# Altium schematic symbol library Library_Diana.SchLib: 299 symbols (part 1 of 3)
Pins are listed as number, name and electrical type; pins without a type are passive.

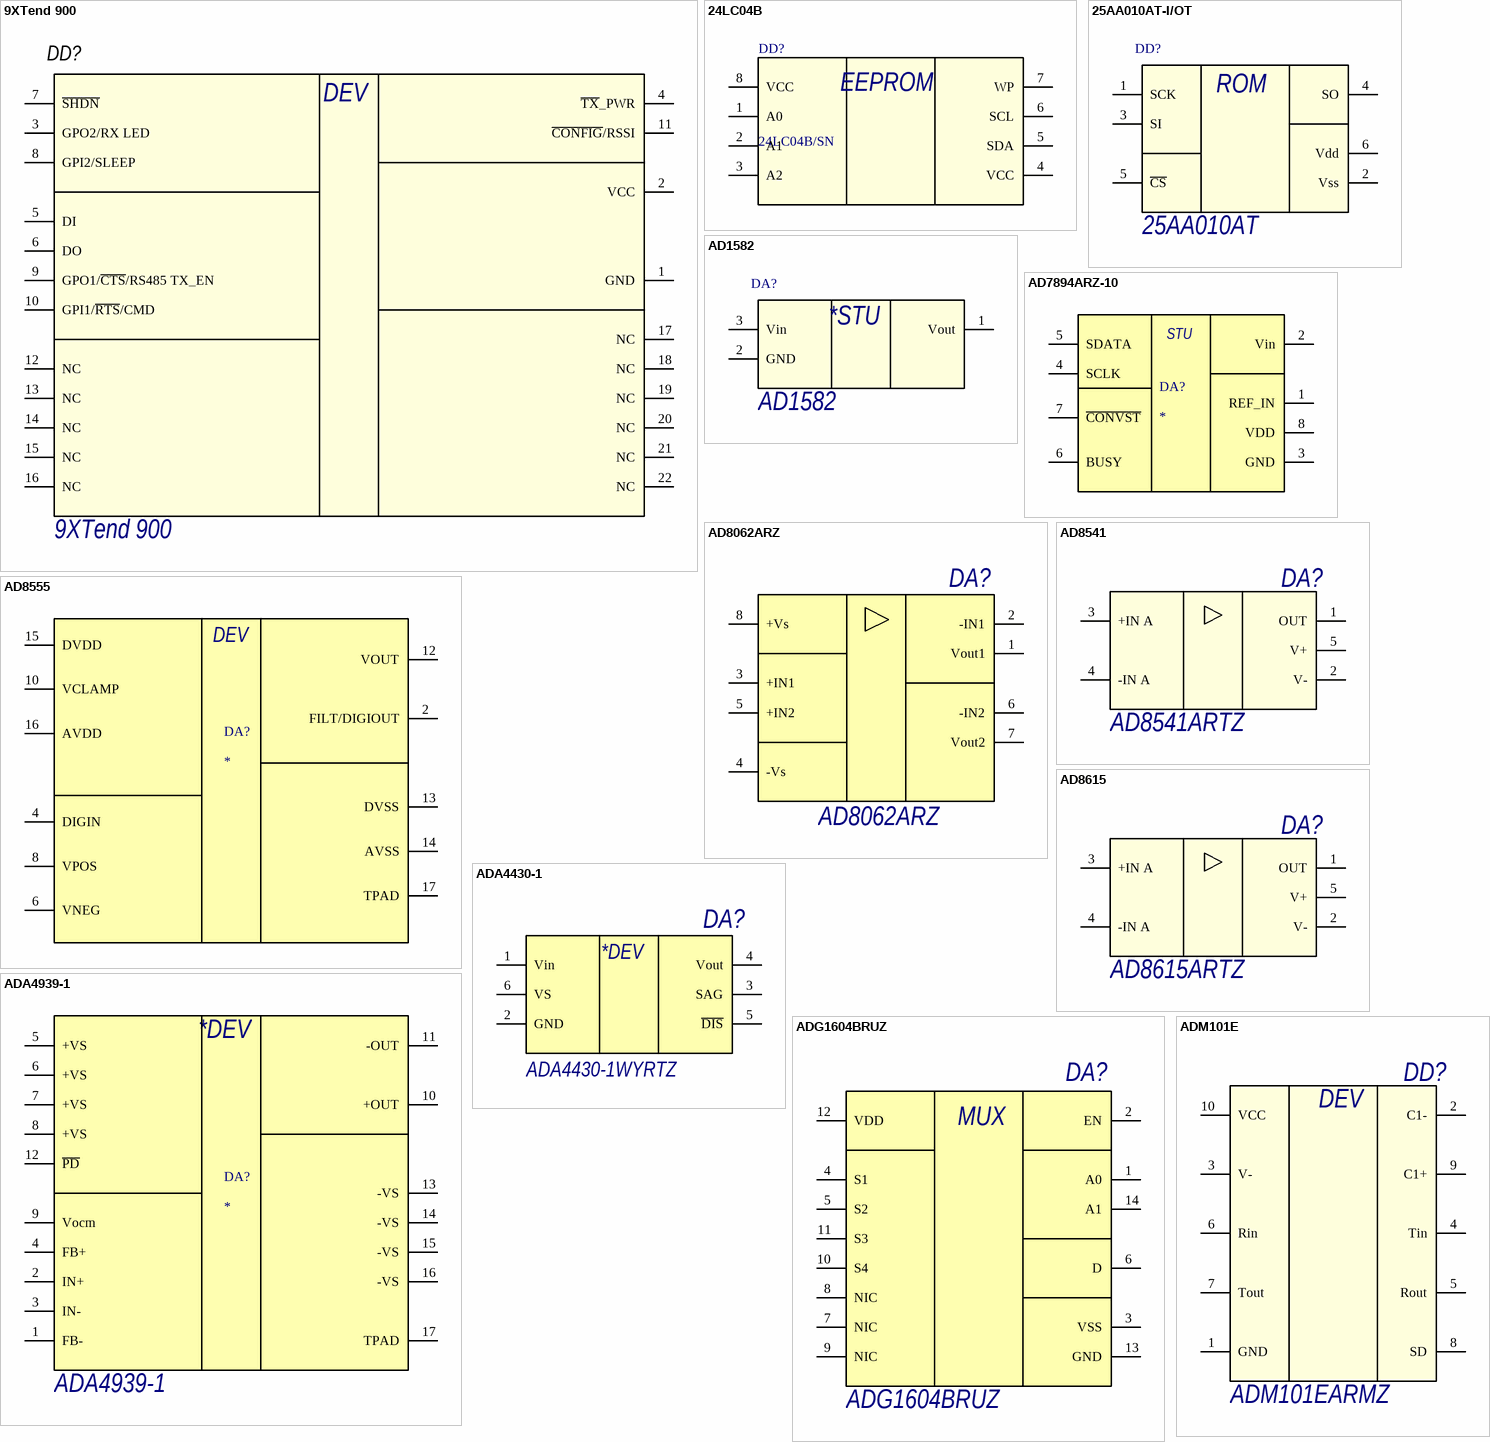
[diagram p0: symbols 9XTend 900 to ADM101E]

## 9XTend 900
designator DD?
Радиомодуль; Manufacturer: Digi International; Manufacturer Part Number: XBP09-DMUIT-156; Voltage - Supply: 3 V ~ 3.6 V; Frequency: 900MHz; Modulation or Protocol: FHSS; Sensitivity: -100dBm; Data Rate (Max): 156kbps; Current - Receiving: 80mA; Current - Transmitting: 210mA; Data Interface: PCB, Through Hole; Antenna Connector: U.FL; Power - Output: 17dBm (50mW); Output Power: 1 W; Frequency Band: 900 MHz; Interface Type: Serial; Antenna Connector Type: RPSMA; Operating Supply Voltage: 2.8 V to 5.5 V; Supply Current Receiving: 80 mA; Supply Current Transmitting: 950 mA; Supplier: Digi-Key; RoHS: RoHS Compliant; Applications: Wireless Mesh Networks; Memory Size: -; Operating Temperature: -40°C ~ 85°C; Package / Case: Module; Category: RF/IF and RFID; Packaging: Bulk; Supplier Part Number: 602-1131-ND; Supplier 1: Mouser; Stock 1: 309; Pricing 1: 1=265.82 (AUD); Dimensions: 60.5 mm x 36.5 mm x 5.1 mm; Product: Transceiver Modules; Brand: Digi International; Maximum Operating Temperature: + 85 C; Minimum Operating Temperature: - 40 C; Product Category: Wireless Modules 900MHz; Tradename: XTend; RoHS - Mouser: Y; Minimum Order Quantity: 1; Reeling: False; ComponentLink1URL: http://www.mouser.com/ds/2/111/ds_xtendmodule-3221.pdf; ComponentLink1Description: http://www.mouser.com/ds/2/111/ds_xtendmodule-3221.pdf; Supplier Part Number 1: 888-XT09-SI; Name: 9XTend 900
footprint 9XTend 900
pins: 1 GND, 2 VCC, 3 GPO2/RX LED, 4 ~{TX}_PWR, 5 DI, 6 DO, 7 ~{SHDN}, 8 GPI2/SLEEP, 9 GPO1/~{CTS}/RS485 TX_EN, 10 GPI1/~{RTS}/CMD, 11 ~{CONFIG}/RSSI, 12 NC, 13 NC, 14 NC, 15 NC, 16 NC, 17 NC, 18 NC, 19 NC, 20 NC, 21 NC, 22 NC
text: DEV

## 24LC04B
designator DD?, comment 24LC04B/SN
4K I2C Serial EEPROM
pins: 1 A0 (power), 2 A1 (power), 3 A2 (power), 4 VCC (power), 5 SDA (power), 6 SCL (power), 7 WP (power), 8 VCC (power)
text: EEPROM

## 25AA010AT-I/OT
designator DD?, comment 25AA010AT
ПЗУ 1K SPI; Name: 25AA010AT
footprint SOT23-6_A
footprint SOT23-6_H
pins: 1 SCK, 2 Vss, 3 SI, 4 SO, 5 ~{CS}, 6 Vdd
1 alternate drawing of the same symbol
text: ROM

## AD1582
designator DA?
ИОН 2.5В; Name: AD1582
footprint SOT23-3_A
footprint SOT23-3_H
pins: 1 Vout, 2 GND, 3 Vin
text: *STU

## AD7894ARZ-10
designator DA?
footprint SO8_A
pins: 1 REF_IN, 2 Vin, 3 GND, 4 SCLK, 5 SDATA, 6 BUSY, 7 ~{CONVST}, 8 VDD
text: STU

## AD8062ARZ
designator DA?
Усилитель, 300МГц; Manufacturer: Analog devices; Supply current: 6.8 мА; Supply voltage: 2.7 - 8 В; !!!Примечание!!!: Особая разводка - убрать полигонземли  из-под чипа; Package: SO-8; ComponentLink1URL: http://www.analog.com/media/en/technical-documentation/data-sheets/AD8061_8062_8063.pdf; ComponentLink1Description: Datasheet; Name: AD8062ARZ
footprint SOIC8P_H
pins: 1 Vout1, 2 -IN1, 3 +IN1, 4 -Vs, 5 +IN2, 6 -IN2, 7 Vout2, 8 +Vs

## AD8541
designator DA?, comment AD8541ARTZ
ОУ, ,Rail-to-Rail; Noize ,En @1кГц: 42нВ/Гц^1/2; Slew rate: 0,8В/мкС; Gain Bandwidth,GBP: 1МГц; Supply Voltage. Vs: 2,7...5,5В; PSRR: 76дБ; Full Power Band,BWP: 70кГц; T (°C) Ambient: -40...+125; Offset , Vos: 6мВ; Input Voltage range: 0...2,7В; Name: AD8541ARTZ
footprint SOT23-5_A
footprint SOT23-5_H
pins: 1 OUT, 2 V-, 3 +IN A, 4 -IN A, 5 V+

## AD8555
designator DA?
footprint VQFN16 - LFCSP
pins: 2 FILT/DIGIOUT, 4 DIGIN, 6 VNEG, 8 VPOS, 10 VCLAMP, 12 VOUT, 13 DVSS, 14 AVSS, 15 DVDD, 16 AVDD, 17 TPAD
text: DEV

## AD8615
designator DA?, comment AD8615ARTZ
ОУ ,Rail-to-Rail; Noize ,En @1кГц: 10нВ/Гц^1/2; Slew rate: 12В/мкС; Gain Bandwidth,GBP: 24 МГц; Supply Voltage. Vs: 2,7...5,0В; PSRR: 90dB; T (°C) Ambient: -40...+125; Pk-to-Pk Noize ,Enp-p: 2,4 мкВ; Offset Voltage,Vos: 100мкВ; Input Voltage Range: 0...5В; Name: AD8615ARTZ
footprint SOT23-5_A
footprint SOT23-5_H
pins: 1 OUT, 2 V-, 3 +IN A, 4 -IN A, 5 V+

## ADA4430-1
designator DA?, comment ADA4430-1WYRTZ
Видео фильтр; Manufacture: Analog Devices; Package: SOT23; Name: ADA4430-1WYRTZ
footprint SOT23-6_A
footprint SOT23-6_H
pins: 1 Vin, 2 GND, 3 SAG, 4 Vout, 5 ~{DIS}, 6 VS
text: *DEV

## ADA4939-1
designator DA?  Name: ADA4939-1
Differential ADC Driver
footprint VQFN16 - LFCSP
pins: 1 FB-, 2 IN+, 3 IN-, 4 FB+, 5 +VS, 6 +VS, 7 +VS, 8 +VS, 9 Vocm, 10 +OUT, 11 -OUT, 12 ~{PD}, 13 -VS, 14 -VS, 15 -VS, 16 -VS, 17 TPAD
text: *DEV

## ADG1604BRUZ
designator DA?
4канальный мультиплексор; Manufacturer: Analog Devices; ComponentLink1Desciption: Datasheet; Supply Current: 30mA; Supply Voltage: +3.3; +5; +12B; Name: ADG1604BRUZ; Package: TSSOP-14
footprint TSSOP14_A
pins: 1 A0, 2 EN, 3 VSS, 4 S1, 5 S2, 6 D, 7 NIC, 8 NIC, 9 NIC, 10 S4, 11 S3, 12 VDD, 13 GND, 14 A1
text: MUX

## ADM101E
designator DD?, comment ADM101EARMZ
RS-232 Transceiver for  Portable Applications
footprint uSOP-10_H
pins: 1 GND, 2 C1-, 3 V-, 4 Tin, 5 Rout, 6 Rin, 7 Tout, 8 SD, 9 C1+, 10 VCC
text: DEV

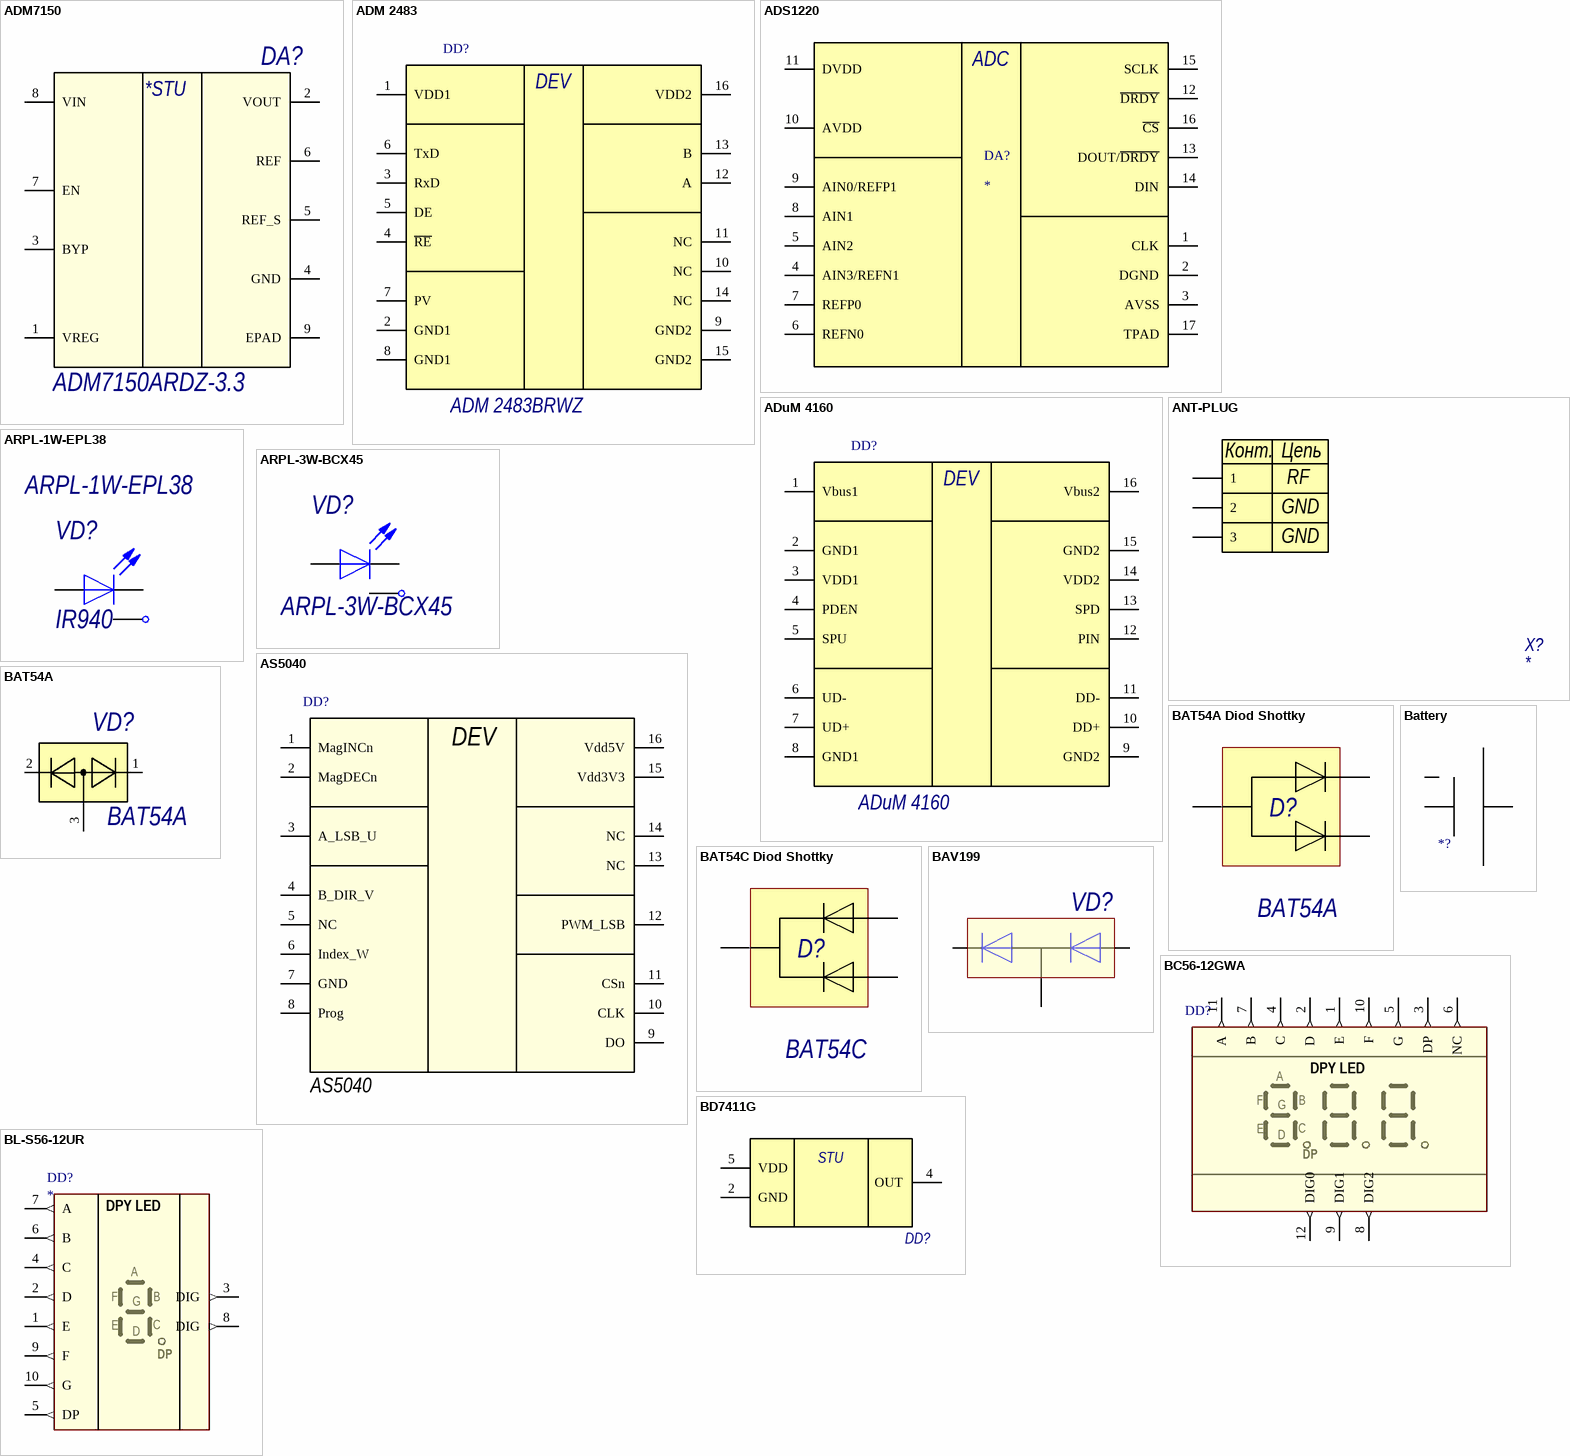
[diagram p1: symbols ADM7150 to BL-S56-12UR]

## ADM7150
designator DA?, comment ADM7150ARDZ-3.3
800 mA Ultralow Noise,  High PSRR, RF Linear Regulator; Manufacture: Analog Device; Package: SOIC; Name: ADM7150ARDZ-3.3
footprint SO8_A PowerPad
pins: 1 VREG, 2 VOUT, 3 BYP, 4 GND, 5 REF_S, 6 REF, 7 EN, 8 VIN, 9 EPAD
text: *STU

## ADM 2483
designator DD?, comment ADM 2483BRWZ
Цифровой изолятор; Name: ADM 2483BRWZ
pins: 1 VDD1, 2 GND1, 3 RxD, 4 ~{RE}, 5 DE, 6 TxD, 7 PV, 8 GND1, 9 GND2, 10 NC, 11 NC, 12 A, 13 B, 14 NC, 15 GND2, 16 VDD2
text: DEV

## ADS1220
designator DA?
footprint VQFN16 - LFCSP
footprint VQFN16
pins: 1 CLK, 2 DGND, 3 AVSS, 4 AIN3/REFN1, 5 AIN2, 6 REFN0, 7 REFP0, 8 AIN1, 9 AIN0/REFP1, 10 AVDD, 11 DVDD, 12 ~{DRDY}, 13 DOUT/~{DRDY}, 14 DIN, 15 SCLK, 16 ~{CS}, 17 TPAD
text: ADC

## ADuM 4160
designator DD?
Цифровой изолятор; Name: ADuM 4160
pins: 1 Vbus1, 2 GND1, 3 VDD1, 4 PDEN, 5 SPU, 6 UD-, 7 UD+, 8 GND1, 9 GND2, 10 DD+, 11 DD-, 12 PIN, 13 SPD, 14 VDD2, 15 GND2, 16 Vbus2
text: DEV

## ANT-PLUG
designator X?
footprint CL331-0471-0-01
pins: 1, 2, 3
text: Конт.; Цепь; RF; GND

## ARPL-1W-EPL38
designator VD?, comment value IR940  Name: ARPL-1W-EPL38  (hidden comment: Power LED)
Светодиод; Part Number: LED_3W; ForwardVoltage: 2-7V; ForwardCurrent: 800mA; Table: Discrete_Opto; Device: Power LED; Case: LED; Type: LED; Status: test; Pin Count: 2; Part Description: ARPL-1W-EPL38
footprint LED_3W
footprint LED_3W (High POwer LED on star)
footprint POWERFUL_LED_3W (High POwer LED on star)
footprint LED_3W (High POwer LED on star)
pins: 0 A, 1 K, 2 A

## ARPL-3W-BCX45
designator VD?, comment Name: ARPL-3W-BCX45  (hidden comment: Power LED)
Светодиод; Part Number: LED_3W; ForwardVoltage: 2-7V; ForwardCurrent: 800mA; Table: Discrete_Opto; Value: White; Device: Power LED; Case: LED; Type: LED; Status: test; Pin Count: 2; Part Description: ARPL-3W-BCX45
footprint LED_3W
footprint LED_3W (High POwer LED on star)
footprint POWERFUL_LED_3W (High POwer LED on star)
footprint LED_3W (High POwer LED on star)
pins: 0, 1 K, 2 A

## AS5040
designator DD?
Энкодер магнитный; Supplier 1: Digi-Key; Supplier Part Number 1: AS5040-ASSTCT-ND; Name: AS5040
footprint SSOP16_A
footprint SSOP16_H
pins: 1 MagINCn, 2 MagDECn (power), 3 A_LSB_U (power), 4 B_DIR_V, 5 NC, 6 Index_W, 7 GND, 8 Prog, 9 DO, 10 CLK, 11 CSn, 12 PWM_LSB, 13 NC, 14 NC, 15 Vdd3V3, 16 Vdd5V
text: DEV

## BAT54A
designator VD?
Сборка выпрямительных диодов; Manufacturer: Diodes Incorporated; Name: BAT54A; ComponentLink1Description: Datasheet; ComponentLink1URL: http://www.diodes.com/_files/datasheets/ds11005.pdf; Package: SOT23-3
footprint SOT23-3_A
pins: 1 A, 2 K, 3 MID

## BAT54A Diod Shottky
designator D?, comment BAT54A
Package: sot23; ComponentLink1URL: http://www.vishay.com/docs/85508/bat54v.pdf; ComponentLink1Description: Datasheet
footprint SOT23-3_A
pins: 1, 2, 3

## BAT54C Diod Shottky
designator D?, comment BAT54С
Package: sot23; ComponentLink1URL: http://www.vishay.com/docs/85508/bat54v.pdf; ComponentLink1Description: Datasheet
footprint SOT23-3_A
pins: 1, 2, 3

## Battery
designator *?  (value not drawn)
Name: *
footprint Battery
pins: 1, 2

## BAV199
designator VD?  (value not drawn)
Диод сдвоенный; Vr: 75В; Vf: 1250мВ; Imax: 160мА; Leakage current: 3 пА; T (°C) Ambient: -65...+150; Name: BAV199
footprint SOD523_A
footprint SOD523_H
pins: 1 A, 2 K, 3 Com

## BC56-12GWA
designator DD?  (value not drawn)
7-ми сегментный 3-х разрядный цифровой индикатор ОК; Manufacturer: Kingbright Electronic; Name: BC56-12GWA
pins: 1 E (out), 2 D (out), 3 DP (out), 4 C (out), 5 G (out), 6 NС (out), 7 B (out), 8 DIG2 (out), 9 DIG1 (out), 10 F (out), 11 A (out), 12 DIG0 (out)
text: DPY LED

## BD7411G
designator DD?  (value not drawn)
Name: *
footprint SSOP5
pins: 2 GND, 4 OUT, 5 VDD
text: STU

## BL-S56-12UR
designator DD?
7-ми сегментный 1 разрядный цифровой индикатор; Назначение: Длительность
pins: 1 E (out), 2 D (out), 3 DIG (out), 4 C (out), 5 DP (out), 6 B (out), 7 A (out), 8 DIG (out), 9 F (out), 10 G (out)
text: DPY LED

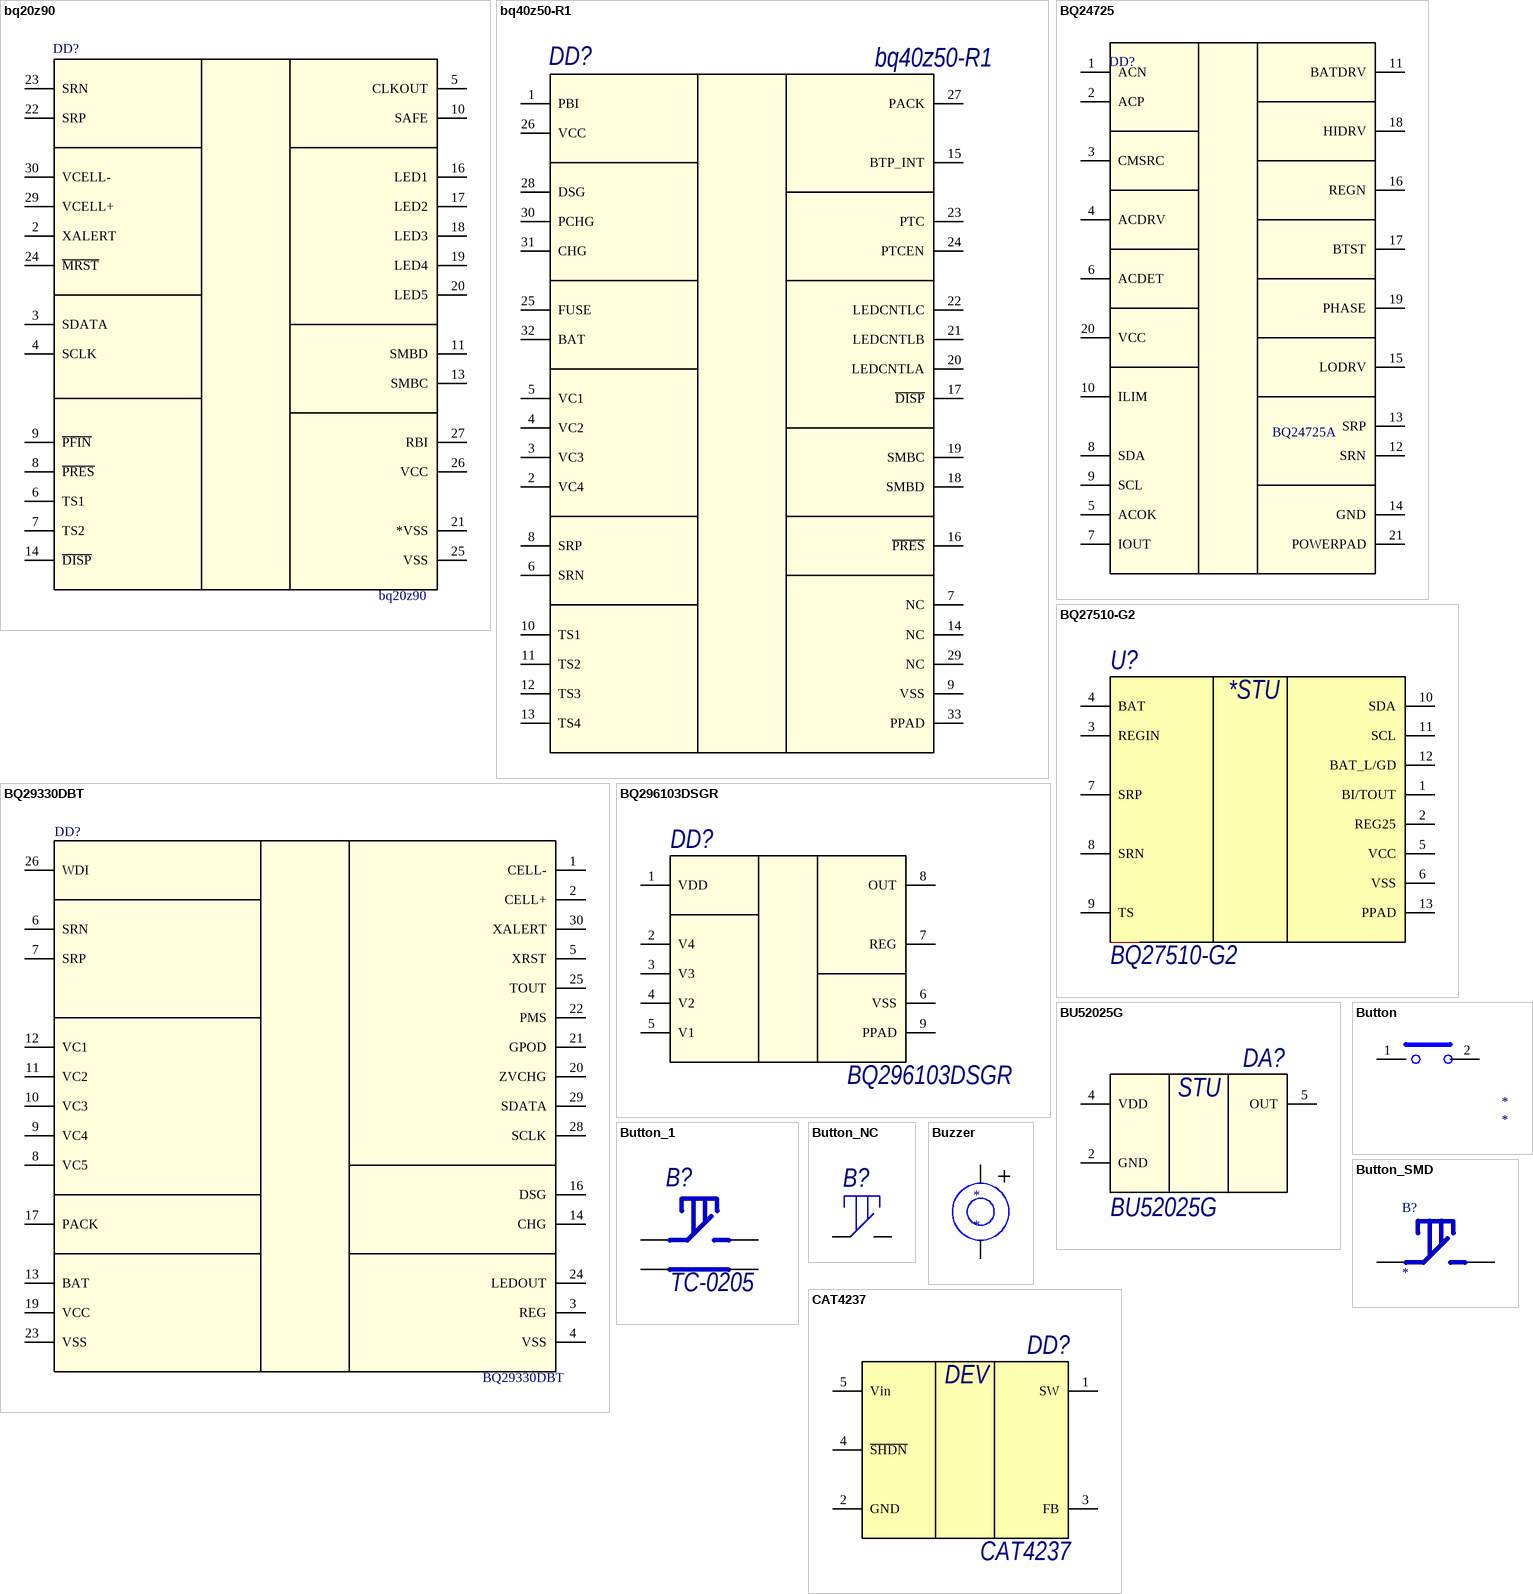
[diagram p2: symbols bq20z90 to CAT4237]

## bq20z90
designator DD?
Name: bq20z90
footprint DBT30
pins: 1 NC hidden, 2 XALERT, 3 SDATA, 4 SCLK, 5 CLKOUT, 6 TS1, 7 TS2, 8 ~{PRES}, 9 ~{PFIN}, 10 SAFE, 11 SMBD, 12 NC hidden, 13 SMBC, 14 ~{DISP}, 15 NC hidden, 16 LED1, 17 LED2, 18 LED3, 19 LED4, 20 LED5, 21 *VSS, 22 SRP, 23 SRN, 24 ~{MRST}, 25 VSS, 26 VCC, 27 RBI, 28 NC hidden, 29 VCELL+, 30 VCELL-

## bq40z50-R1
designator DD?
Name: bq40z50-R1
footprint VQFN32
pins: 1 NC hidden, 1 PBI, 2 VC4, 3 VC3, 4 VC2, 5 VC1, 6 SRN, 7 NC, 8 SRP, 9 VSS, 10 TS1, 11 TS2, 12 NC hidden, 12 TS3, 13 TS4, 14 NC, 15 NC hidden, 15 BTP_INT, 16 ~{PRES}, 17 ~{DISP}, 18 SMBD, 19 SMBC, 20 LEDCNTLA, 21 LEDCNTLB, 22 LEDCNTLC, 23 PTC, 24 PTCEN, 25 FUSE, 26 VCC, 27 PACK, 28 NC hidden, 28 DSG, 29 NC, 30 PCHG, 31 CHG, 32 BAT, 33 PPAD

## BQ24725
designator DD?, comment BQ24725A
Name: BQ24725A
footprint S-PVQFN-N20
footprint S-PVQFN-N20
pins: 1 ACN, 2 ACP, 3 CMSRC, 4 ACDRV, 5 ACOK, 6 ACDET, 7 IOUT, 8 SDA, 9 SCL, 10 ILIM, 11 BATDRV, 12 SRN, 13 SRP, 14 GND, 15 LODRV, 16 REGN, 17 BTST, 18 HIDRV, 19 PHASE, 20 VCC, 21 POWERPAD

## BQ27510-G2
designator U?
System-Side Impedance-Track Fuel Gauge with Direct Battery Connection, -40 to 85 degC, 12-pin SON (DRZ), Green (RoHS & no Sb/Br); PartNumber: BQ27510DRZR-G2; Manufacturer: Texas Instruments; Lead Acid: N; Li-Ion: Y; SubFamily: Battery Fuel Gauge; DatasheetVersion: SLUS948; PackageVersion: revB, Apr-2006; PackageReference: DRZ12-1950X2450TP; PackageDescription: 12-Pin Plastic Small Outline No-Lead, 4 x 2.5 x 1 mm Body, 0.4 mm Pitch, Exposed Pad, Pb-Free; Supplier 1: Digi-Key; Supplier Part Number 1: 296-27728-2-ND; Supplier 2: Digi-Key; Supplier Part Number 2: 296-27728-1-ND; Supplier 3: Digi-Key; Supplier Part Number 3: 296-27728-6-ND; Supplier 4: Newark; Supplier Part Number 4: 99R9912; Supplier 5: Mouser; Supplier Part Number 5: 595-BQ27510DRZR-G2; Eco-Plan: Green (RoHS & no Sb/Br); Li-Polymer: Y; NiCd: N; NiMH: N; Over Voltage Protection: N; Mounting Technology: Surface Mount; ComponentLink1Description: Datasheet; ComponentLink1URL: http://www.ti.com/general/docs/lit/getliterature.tsp?genericPartNumber=BQ27510-G2&fileType=pdf; Name: BQ27510-G2
footprint DRZ12-1950X2450TP (SON, 12-Leads, Body 4x2.5mm, Pitch 0.4mm, Thermal Pad 1.95x2.45mm, TI Recommended)
pins: 1 BI/TOUT (power) "Battery-insertion detection input. Power pin for pack thermistor network. Thermistor-multiplexer control pin. Open-drain I/O. Use with pull-up resistor >1M ohm (1.8 M ohm typical).", 2 REG25 (power) "2.5 V output voltage of the internal integrated LDO.", 3 REGIN (power) "The input voltage for the internal integrated LDO.", 4 BAT (power) "Cell voltage measurement input. ADC input.", 5 VCC (power) "Processor power input. Decouple with 0.1uF ceramic capacitor minimum.", 6 VSS (power) "Device ground", 7 SRP (power) "Analog input pin connected to the internal coulomb counter where SRP is nearest the PACK-connection. Connect to 5-M ohm  to 20-M ohm sense resistor.", 8 SRN (power) "Analog input pin connected to the internal coulomb counter where SRN is nearest the VSS-connection. Connect to a 5-M ohm to 20-M ohm sense resistor.", 9 TS (power) "Pack thermistor voltage sense (use 103AT-type thermistor). ADC input", 10 SDA (power) "Slave I2C serial communications data line for communication with system (Master). Open-drain I/O. Use with 10-K ohm pull-up resistor (typical).", 11 SCL (power) "Slave I2C serial communications clock input line for communication with system (Master). Use with 10-K ohm pull-up resistor (typical).", 12 BAT_L/GD (power) "Battery-good or Battery-low output indicator. Desired function polarity selected through the Operation Configuration register. Open-drain output", 13 PPAD (power) "Exposed pad."
text: *STU

## BQ29330DBT
designator DD?
LITHIUM-POLYMER BATTERY PROTECTION AFE; Name: BQ29330DBT
footprint DBT30
pins: 1 CELL-, 2 CELL+, 3 REG, 4 VSS, 5 XRST, 6 SRN, 7 SRP, 8 VC5, 9 VC4, 10 VC3, 11 VC2, 12 VC1, 13 BAT, 14 CHG, 15 NC hidden, 16 DSG, 17 PACK, 18 NC hidden, 19 VCC, 20 ZVCHG, 21 GPOD, 22 PMS, 23 VSS, 24 LEDOUT, 25 TOUT, 26 WDI, 27 NC hidden, 28 SCLK, 29 SDATA, 30 XALERT

## BQ296103DSGR
designator DD?
x Overvoltage Protection for 2-Series, 3-Series, and 4-Series Cell  Li-Ion Batteries; Name: BQ296103DSGR
footprint WSON-8 (PSON, 8-Leads, Body 4x4mm, Pitch 0.8mm, NSC Recommended)
pins: 1 VDD, 2 V4, 3 V3, 4 V2, 5 V1, 6 VSS, 7 REG, 8 OUT, 9 PPAD, 15 NC hidden, 18 NC hidden, 27 NC hidden

## BU52025G
designator DA?
Name: BU52025G
footprint SOT23-5_A
footprint SOT23-5_H
pins: 2 GND, 4 VDD, 5 OUT
text: STU

## Button
designator *
pins: 1, 2

## Button_1
designator B?, comment TC-0205
Name: TC-0205
footprint SMD_TACT_SWITCH
footprint BUTTON_ANGLE
pins: 1, 2, 3, 4

## Button_NC
designator B?, comment 0695HIM-130G  (value not drawn)
Кнопка без фиксации нормальноразомкнутая; Name: 0695HIM-130G
footprint SMD_TACT_SWITCH
footprint switch (6*6mm vertical type, SMD, height 8.0mm, white actuator, 260gf, T&R)
footprint sw_wurth electr_4301x60957x6 (6*6mm vertical type, THT, height 9.5mm, white actuator, 260gf, Bulk)
footprint SW_WURTH ELECTR_4301X60957X6 (6*6mm vertical type, THT, height 9.5mm, white actuator, 260gf, Bulk)
footprint SW_WURTH ELECTR_4301X60957X6 (6*6mm vertical type, THT, height 9.5mm, white actuator, 260gf, Bulk)
pins: 1, 3

## Button_SMD
designator B?
Name: *
footprint SMD_TACT_SWITCH
pins: 1, 2

## Buzzer
designator *
pins: 0, 1

## CAT4237
designator DD?  Name: CAT4237
Драйвер светодиодов; Manufacture: ON Semiconductor; Package: TSOT-23
footprint SOT23-5_A
pins: 1 SW, 2 GND, 3 FB, 4 ~{SHDN}, 5 Vin
text: DEV

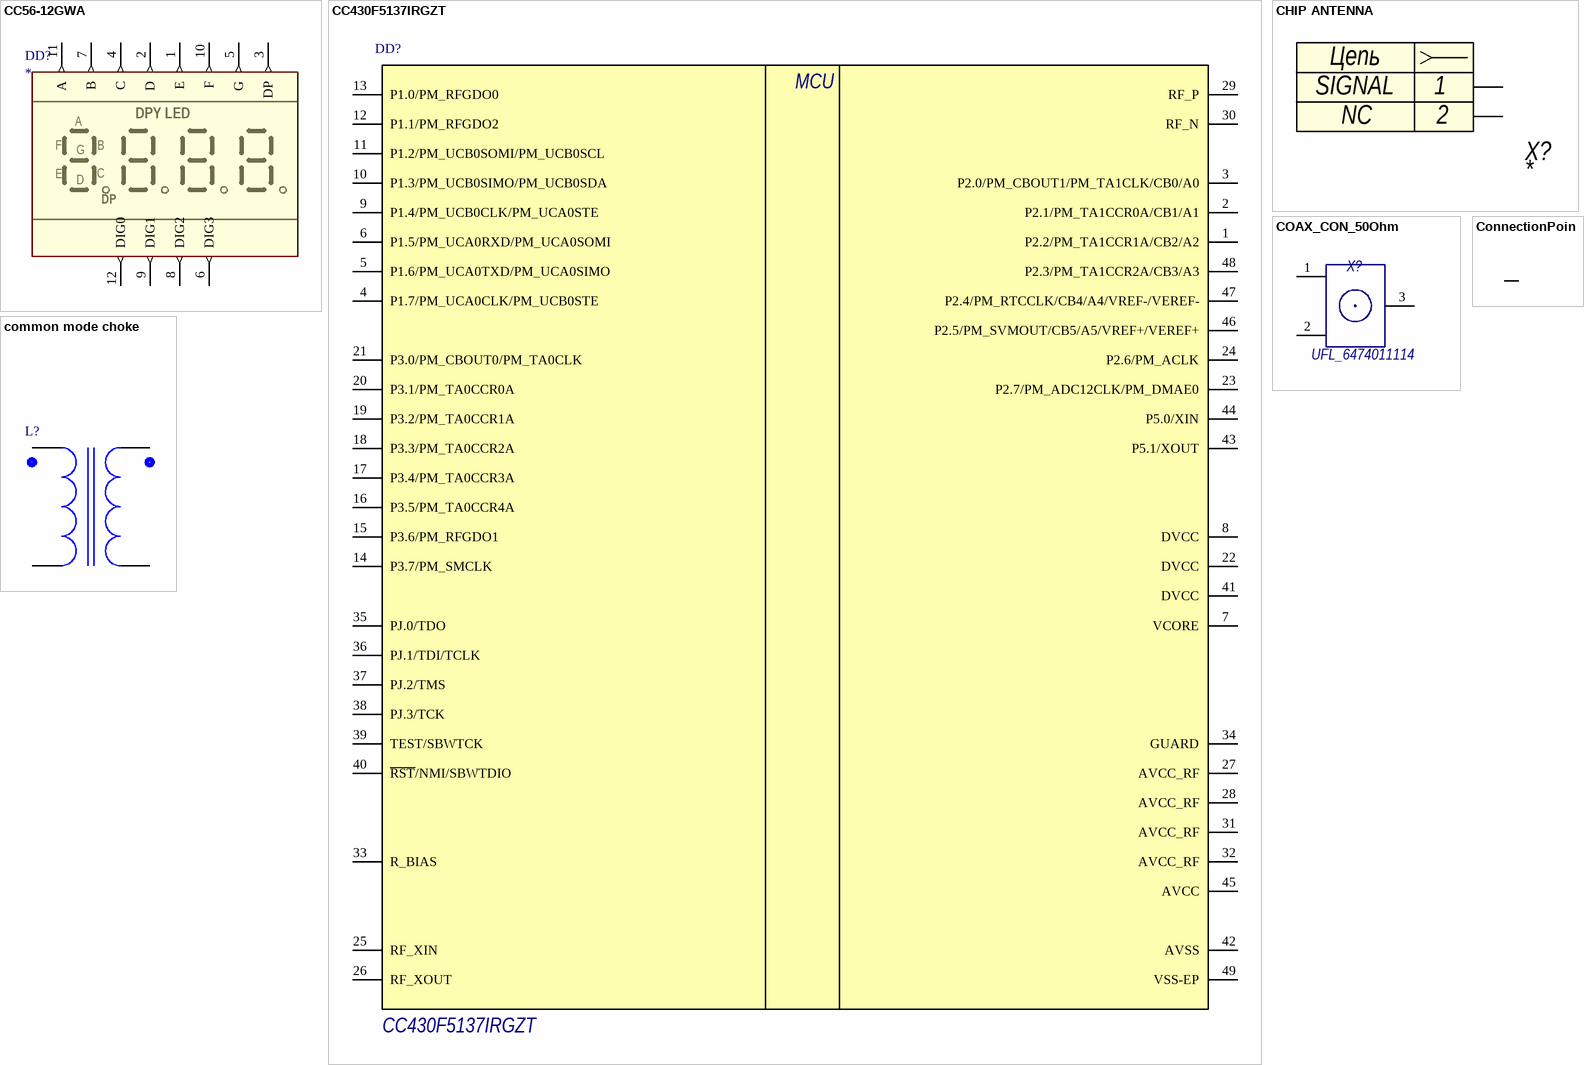
[diagram p3: symbols CC56-12GWA to ConnectionPoin]

## CC56-12GWA
designator DD?
7-ми сегментный 4-х разрядный цифровой индикатор
pins: 1 E (out), 2 D (out), 3 DP (out), 4 C (out), 5 G (out), 6 DIG3 (out), 7 B (out), 8 DIG2 (out), 9 DIG1 (out), 10 F (out), 11 A (out), 12 DIG0 (out)
text: DPY LED

## CC430F5137IRGZT
designator DD?
20 MHz MSP430 SoC with RF Core with 32 KB Flash, 4096 B SRAM and 30 GPIOs, -40 to 85 degC, 48-pin QFN (RGZ), Green (RoHS & no Sb/Br); Manufacturer: Texas Instruments; ADC: Yes; ADC Channels: 6; DMA: 3; Flash(KB): 32; Frequency(MHz): 20; GPIO: 30; Multiplier: 32x32; SRAM(B): 4096; SubFamily: RF SoC Series; Timers - 16-bit: 2; USCI_A (UART/LIN/IrDA/SPI): 1; DatasheetVersion: SLAS554F; PackageVersion: 4204101/F; PackageReference: RGZ48-4100X4100TP; PackageDescription: 48-Pin Plastic Flat Pack, Body 7 x 7 mm, Pitch 0.5 mm; Supplier 1: Digi-Key; Supplier Part Number 1: CC430F5137IRGZT-ND; Supplier 2: Newark; Supplier Part Number 2: 74R6087; Supplier 3: Mouser; Supplier Part Number 3: 595-CC430F5137IRGZT; Brown Out Reset: Yes; Comparators: Yes; Eco-Plan: Green (RoHS & no Sb/Br); Real-Time Clock: Yes; SVS: Yes; Temp Sensor: Yes; USCI_B (I2C & SPI): 1; Watchdog: Yes; Mounting Technology: Surface Mount; Code_JEDEC: MO-220; ComponentLink1Description: Manufacturer URL; ComponentLink1URL: http://www.ti.com/; ComponentLink2Description: Datasheet; ComponentLink2URL: http://www.ti.com/general/docs/lit/getliterature.tsp?genericPartNumber=CC430F5137&fileType=pdf; ComponentLink3Description: Package Specification; ComponentLink3URL: http://www.ti.com/lit/ds/symlink/sn75dp139.pdf; PartNumber: CC430F5137IRGZT
footprint TI-RGZ48-4100X4100TP_N (QFN, 48-Leads, Body 7x7mm, Pitch 0.5mm, Thermal Pad 4.1x4.1mm, IPC Medium Density)
pins: 1 P2.2/PM_TA1CCR1A/CB2/A2 (power), 2 P2.1/PM_TA1CCR0A/CB1/A1 (power), 3 P2.0/PM_CBOUT1/PM_TA1CLK/CB0/A0 (power), 4 P1.7/PM_UCA0CLK/PM_UCB0STE (power), 5 P1.6/PM_UCA0TXD/PM_UCA0SIMO (power), 6 P1.5/PM_UCA0RXD/PM_UCA0SOMI (power), 7 VCORE (power) "Regulated core power supply", 8 DVCC (power) "Digital power supply", 9 P1.4/PM_UCB0CLK/PM_UCA0STE (power), 10 P1.3/PM_UCB0SIMO/PM_UCB0SDA (power), 11 P1.2/PM_UCB0SOMI/PM_UCB0SCL (power), 12 P1.1/PM_RFGDO2 (power), 13 P1.0/PM_RFGDO0 (power), 14 P3.7/PM_SMCLK (power), 15 P3.6/PM_RFGDO1 (power), 16 P3.5/PM_TA0CCR4A (power), 17 P3.4/PM_TA0CCR3A (power), 18 P3.3/PM_TA0CCR2A (power), 19 P3.2/PM_TA0CCR1A (power), 20 P3.1/PM_TA0CCR0A (power), 21 P3.0/PM_CBOUT0/PM_TA0CLK (power), 22 DVCC (power) "Digital power supply", 23 P2.7/PM_ADC12CLK/PM_DMAE0 (power), 24 P2.6/PM_ACLK (power), 25 RF_XIN (power) "Input terminal for RF crystal oscillator, or external clock input", 26 RF_XOUT (power) "Output terminal for RF crystal oscillator", 27 AVCC_RF (power) "Radio analog power supply", 28 AVCC_RF (power) "Radio analog power supply", 29 RF_P (power) "Positive RF input to LNA in receive mode Positive RF output from PA in transmit mode", 30 RF_N (power) "Negative RF input to LNA in receive mode Negative RF output from PA in transmit mode", 31 AVCC_RF (power) "Radio analog power supply", 32 AVCC_RF (power) "Radio analog power supply", 33 R_BIAS (power) "External bias resistor for radio reference current", 34 GUARD (power) "Power supply connection for digital noise isolation", 35 PJ.0/TDO (power), 36 PJ.1/TDI/TCLK (power), 37 PJ.2/TMS (power), 38 PJ.3/TCK (power), 39 TEST/SBWTCK (power), 40 ~{RST}/NMI/SBWTDIO (power), 41 DVCC (power) "Digital power supply", 42 AVSS (power) "Analog ground supply for ADC12", 43 P5.1/XOUT (power), 44 P5.0/XIN (power), 45 AVCC (power) "Analog power supply", 46 P2.5/PM_SVMOUT/CB5/A5/VREF+/VEREF+ (power), 47 P2.4/PM_RTCCLK/CB4/A4/VREF-/VEREF- (power), 48 P2.3/PM_TA1CCR2A/CB3/A3 (power), 49 VSS-EP (power) "Ground supply The exposed die attach pad must be connected to a solid ground plane as this is the ground connection for the chip."
text: MCU

## CHIP ANTENNA
designator X?
footprint FPRT 2.4
pins: 1, 2
text: Цепь; SIGNAL; NC

## COAX_CON_50Ohm
designator X?, comment UFL_6474011114
ComponentLink1Description: Datasheet; ComponentLink1URL: http://www.hirose.co.jp/cataloge_hp/e32119372.pdf; Package: 3 x 3 mm
footprint UFL
pins: 1 GND, 2 GND, 3 SIG

## common mode choke
designator L?, comment XXX  (value not drawn)
Синфазный дроссель; Value: XXX
footprint SRF0703
pins: 1, 2, 3, 4

## ConnectionPoin
designator ?  (net tie, no BOM)
ConnectionPoin
footprint ConnectionPoint
pins: 1, 2

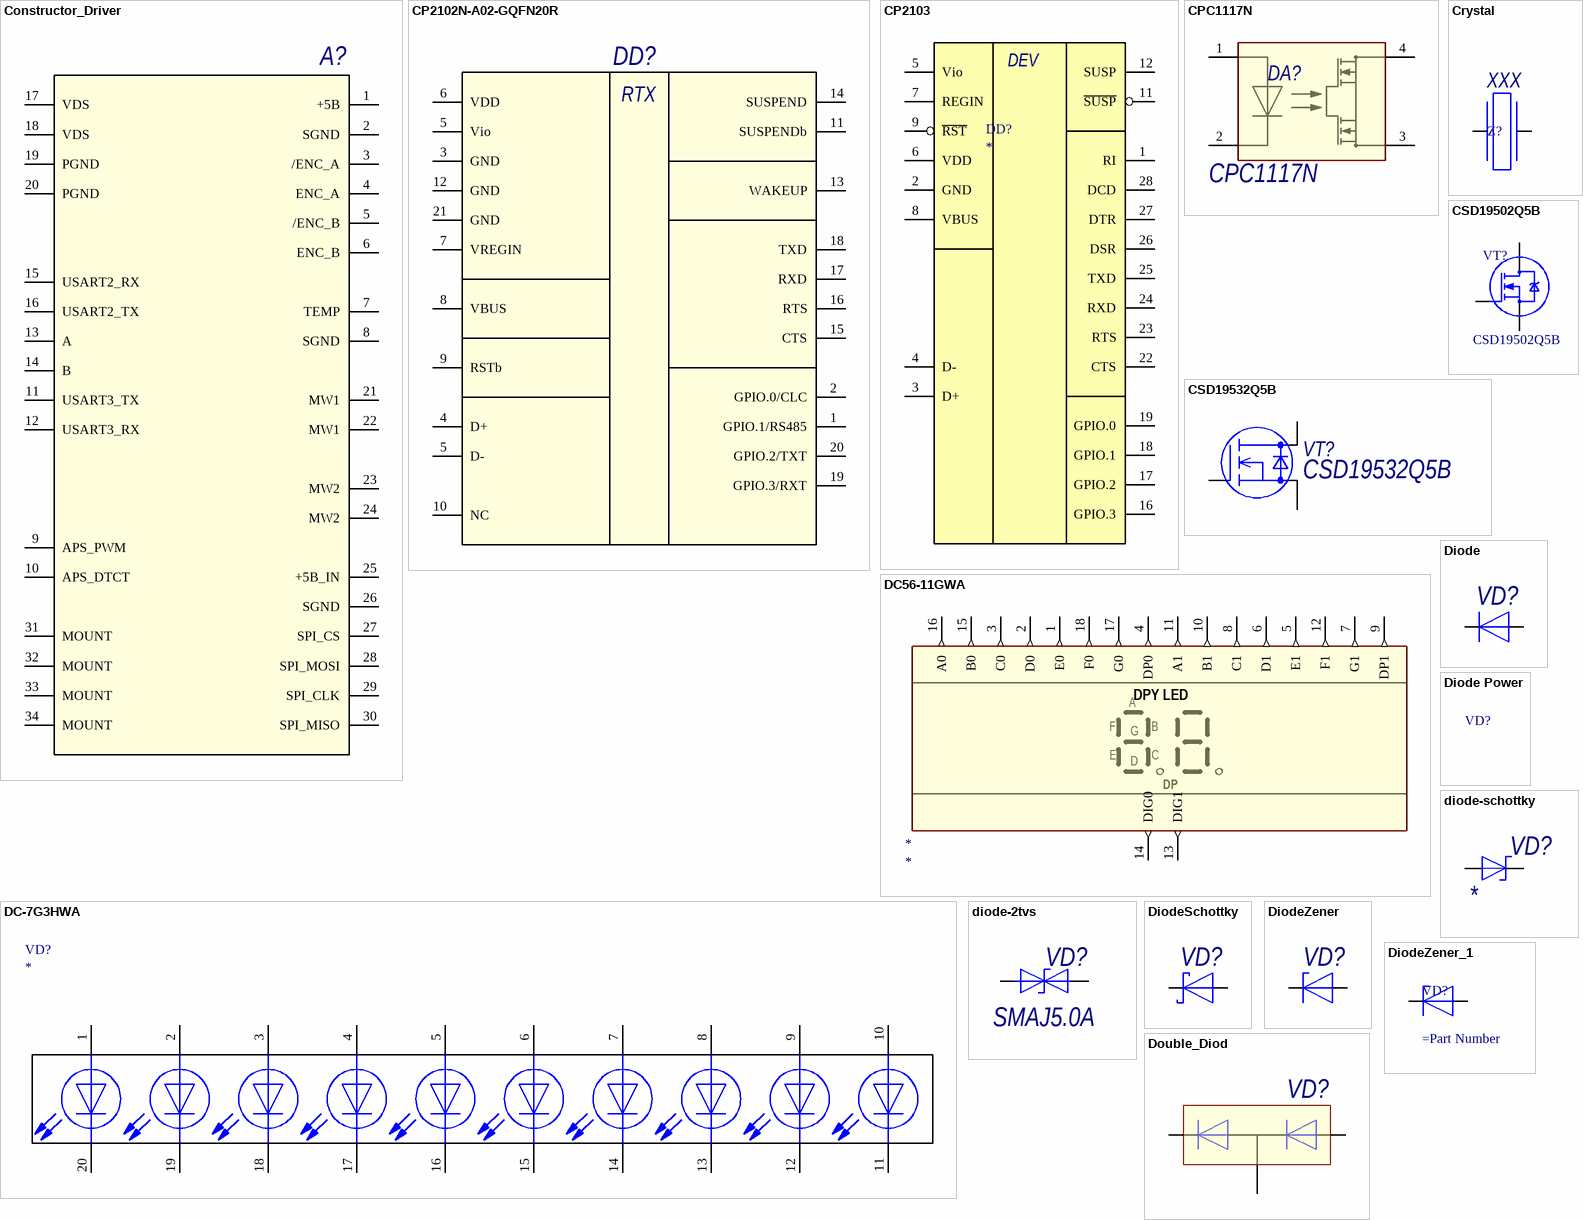
[diagram p4: symbols Constructor_Driver to Double_Diod]

## Constructor_Driver
designator A?  (value not drawn)
FULL BRIDGE DC MOTOR DRIVER WITH CHLUHA/BLACKJACK
pins: 1 +5В, 2 SGND, 3 /ENC_A, 4 ENC_A, 5 /ENC_B, 6 ENC_B, 7 TEMP, 8 SGND, 9 APS_PWM, 10 APS_DTCT, 11 USART3_TX, 12 USART3_RX, 13 A, 14 B, 15 USART2_RX, 16 USART2_TX, 17 VDS, 18 VDS, 19 PGND, 20 PGND, 21 MW1, 22 MW1, 23 MW2, 24 MW2, 25 +5В_IN, 26 SGND, 27 SPI_CS, 28 SPI_MOSI, 29 SPI_CLK, 30 SPI_MISO, 31 MOUNT, 32 MOUNT, 33 MOUNT, 34 MOUNT

## CP2102N-A02-GQFN20R
designator DD?
USB-UART преобразователь
pins: 1 GPIO.1/RS485, 2 GPIO.0/CLC, 3 GND, 4 D+, 5 Vio, 5 D-, 6 VDD, 7 VREGIN, 8 VBUS, 9 RSTb, 10 NC, 11 SUSPENDb, 12 GND, 13 WAKEUP, 14 SUSPEND, 15 CTS, 16 RTS, 17 RXD, 18 TXD, 19 GPIO.3/RXT, 20 GPIO.2/TXT, 21 GND
text: RTX

## CP2103
designator DD?
Преобразователь интерфейсов USB-UART
footprint CP2103 (QFN, 28-Leads, Body 5,0x5,0mm (max), Pitch 0,50mm, IPC Medium Density)
pins: 1 RI, 2 GND, 3 D+, 4 D-, 5 Vio, 6 VDD, 7 REGIN, 8 VBUS, 9 ~{RST}, 11 ~{SUSP}, 12 SUSP, 16 GPIO.3, 17 GPIO.2, 18 GPIO.1, 19 GPIO.0, 22 CTS, 23 RTS, 24 RXD, 25 TXD, 26 DSR, 27 DTR, 28 DCD
text: DEV

## CPC1117N
designator DA?
Value: Value; Name: CPC1117N
footprint SOP4
pins: 1, 2, 3, 4

## Crystal
designator Z?, comment XXX
Кварцевый резонатор; Value: XXX
footprint QSMD3.2x2.5_A
footprint QSMD3.2x2.5_H
pins: 1, 2

## CSD19502Q5B
designator VT?
Power MOSFET; Name: CSD19502Q5B
footprint PSON_8_TI
pins: D, G, S

## CSD19532Q5B
designator VT?
N-канальный МОП-транзистор; Manufacturer: TI; Name: CSD19532Q5B
footprint КТ-111В-1.02 (КТ-111В-1.02 , 3-х выводной, металлокерамический радиационно стойкий)
pins: D, G, S

## DC56-11GWA
designator *
pins: 1 E0 (out), 2 D0 (out), 3 C0 (out), 4 DP0 (out), 5 E1 (out), 6 D1 (out), 7 G1 (out), 8 C1 (out), 9 DP1 (out), 10 B1 (out), 11 A1 (out), 12 F1 (out), 13 DIG1 (out), 14 DIG0 (out), 15 B0 (out), 16 A0 (out), 17 G0 (out), 18 F0 (out)
text: DPY LED; A; F; B; G; E; C; D; DP

## DC-7G3HWA
designator VD?
Шкала светодиодная 3 красных + 7 зеленых
pins: 1 A, 2 A, 3 A, 4 A, 5 A, 6 A, 7 A, 8 A, 9 A, 10 A, 11 K, 12 K, 13 K, 14 K, 15 K, 16 K, 17 K, 18 K, 19 K, 20 K

## Diode
designator VD?
Диод
footprint SOD523_A
footprint SOD523_H
pins: 1 K, 2 A

## Diode Power
designator VD?

## diode-2tvs
designator VD?, comment SMAJ5.0A
Ограничитель напряжения односторонний; Name: SMAJ5.0A
pins: 1 A, 2 K

## diode-schottky
designator VD?
diode-schottky; Name: *
pins: 1 A, 2 K

## DiodeSchottky
designator VD?
Диод Шоттки
footprint SOD123_A
footprint SOD123_H
footprint SMA_A
footprint SMA_H
footprint SOD523_A
footprint SOD523_H
pins: 1 K, 2 A

## DiodeZener
designator VD?
Стабилитрон
footprint SMA_A
footprint SMA_H
footprint SOD523_A
footprint SOD523_H
footprint SOT23-2_A
footprint SOT23-2_H
pins: 1 K, 2 A

## DiodeZener_1
designator VD?
Cтабилитрон (лавинный выпрямительный диод) односторонний
pins: 1 K, 2 A

## Double_Diod
designator VD?
Диод сдвоенный
footprint SOD523_A
footprint SOD523_H
pins: 1 A, 2 K, 3 Com

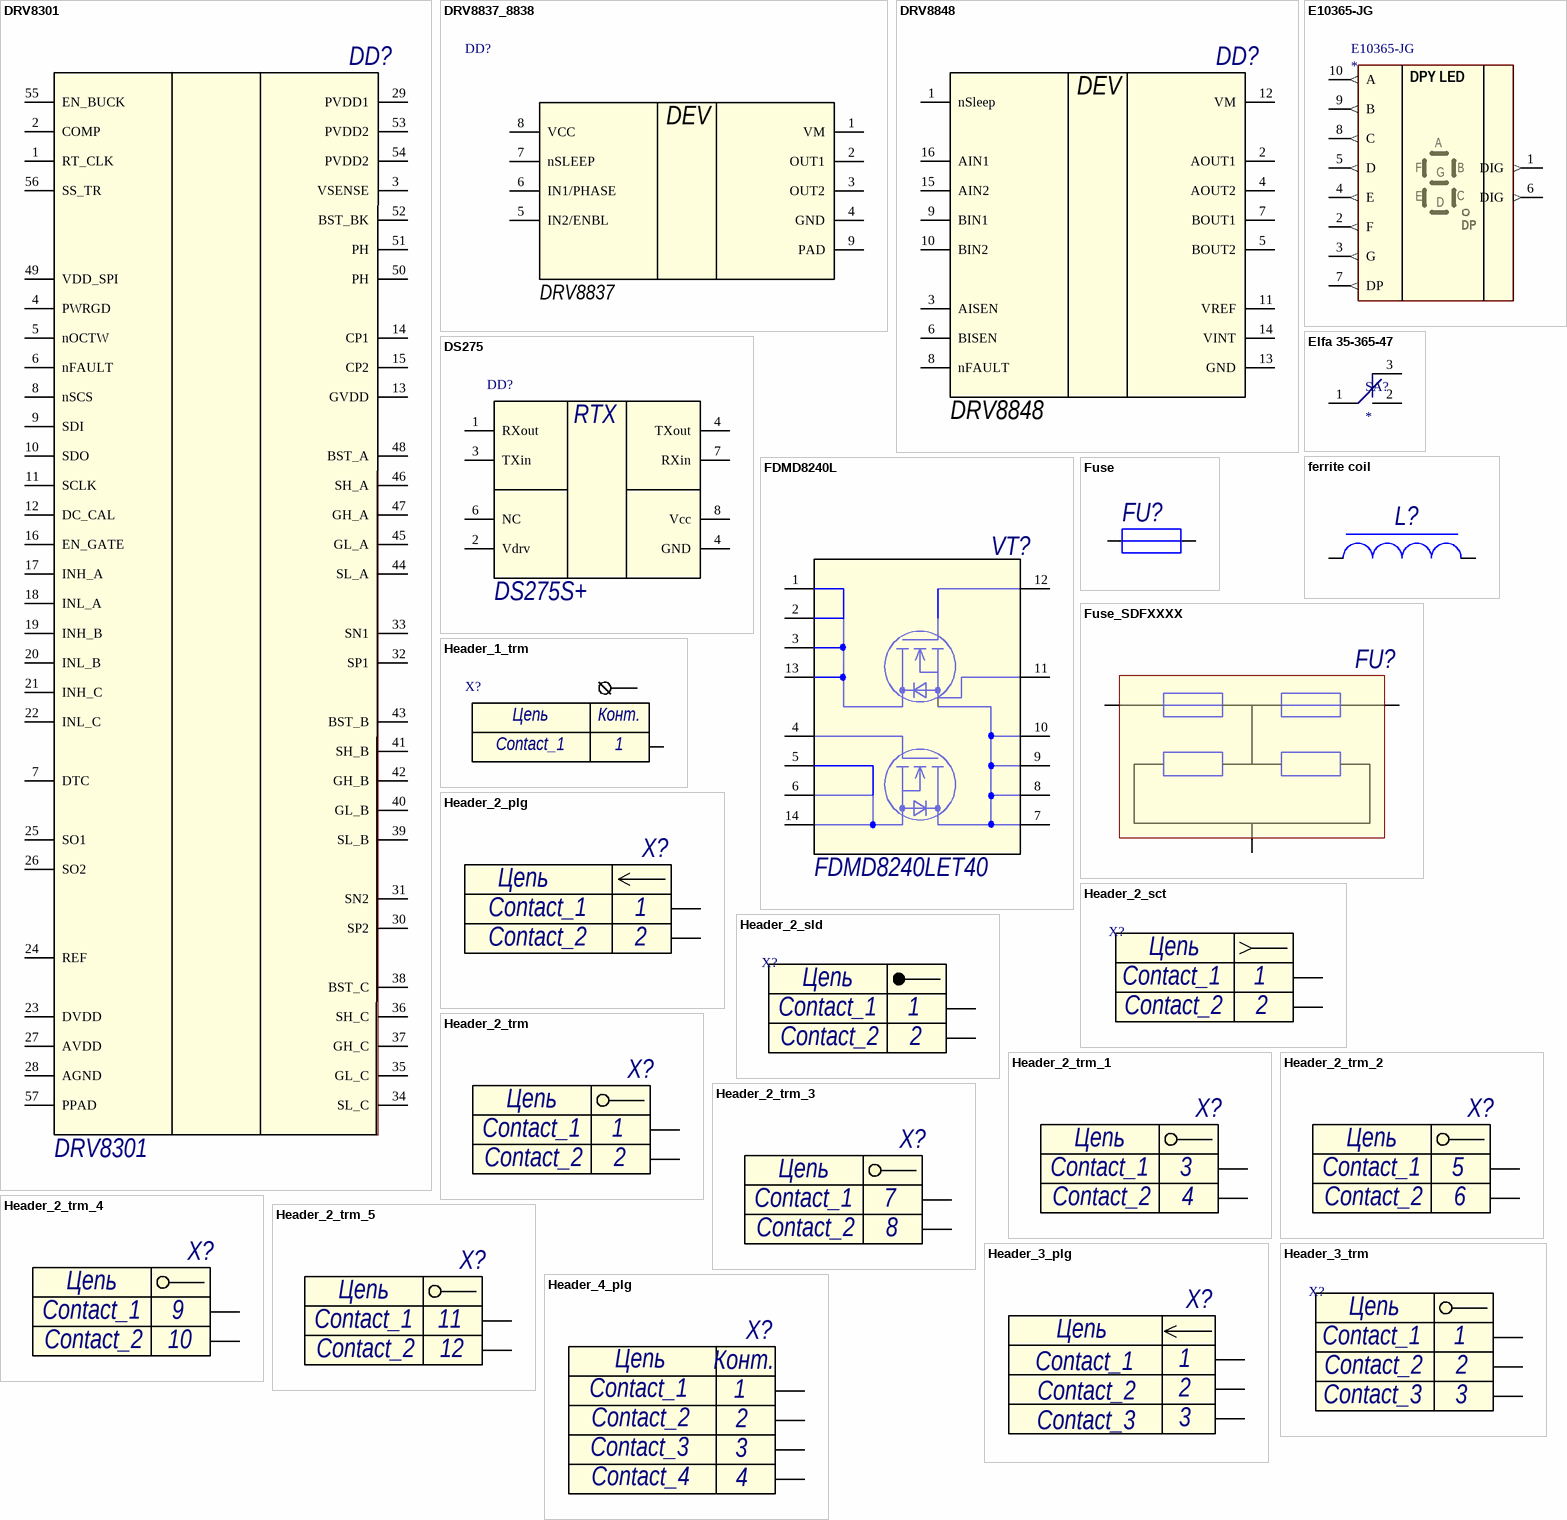
[diagram p5: symbols DRV8301 to Header_4_plg]

## DRV8301
designator DD?
Three-Phase Gate Driver With Dual Current Shunt Amplifiers  and Buck Regulator; Name: DRV8301
footprint PB1QFN
pins: 1 RT_CLK, 2 COMP, 3 VSENSE, 4 PWRGD, 5 nOCTW, 6 nFAULT, 7 DTC, 8 nSCS, 9 SDI, 10 SDO, 11 SCLK, 12 DC_CAL, 13 GVDD, 14 CP1, 15 CP2, 16 EN_GATE, 17 INH_A, 18 INL_A, 19 INH_B, 20 INL_B, 21 INH_C, 22 INL_C, 23 DVDD, 24 REF, 25 SO1, 26 SO2, 27 AVDD, 28 AGND, 29 PVDD1, 30 SP2, 31 SN2, 32 SP1, 33 SN1, 34 SL_C, 35 GL_C, 36 SH_C, 37 GH_C, 38 BST_C, 39 SL_B, 40 GL_B, 41 SH_B, 42 GH_B, 43 BST_B, 44 SL_A, 45 GL_A, 46 SH_A, 47 GH_A, 48 BST_A, 49 VDD_SPI, 50 PH, 51 PH, 52 BST_BK, 53 PVDD2, 54 PVDD2, 55 EN_BUCK, 56 SS_TR, 57 PPAD

## DRV8837_8838
designator DD?, comment DRV8837
LOW VOLTAGE H-BRIDGE IC; Manufacturer: Texas Instruments; MFG Part Number: Supplied; DigiKey Part #: Supplied; Size: 8QFN; Supplier 1: Digi-Key; Supplier Part Number 1: 296-34806-2-ND; Value: DRV8837
footprint PWSON8_A
footprint PWSON8_H
pins: 1 VM, 2 OUT1, 3 OUT2, 4 GND, 5 IN2/ENBL, 6 IN1/PHASE, 7 nSLEEP, 8 VCC, 9 PAD
text: DEV

## DRV8848
designator DD?
DUAL H-BRIDGE IC; Manufacturer: Texas Instruments; MFG Part Number: Supplied; DigiKey Part #: Supplied; Size: 8QFN; Supplier 1: Digi-Key; Supplier Part Number 1: 296-34806-2-ND; Value: DRV8848
footprint PWSON8_A
footprint PWSON8_H
pins: 1 nSleep, 2 AOUT1, 3 AISEN, 4 AOUT2, 5 BOUT2, 6 BISEN, 7 BOUT1, 8 nFAULT, 9 BIN1, 10 BIN2, 11 VREF, 12 VM, 13 GND, 14 VINT, 15 AIN2, 16 AIN1
text: DEV

## DS275
designator DD?, comment DS275S+
Приемопередатчик RS232; Name: DS275S+
footprint SO8_A
footprint SO8_H
pins: 1 RXout, 2 Vdrv, 3 TXin, 4 GND, 4 TXout, 6 NC, 7 RXin, 8 Vcc
text: RTX

## E10365-JG
designator E10365-JG
7-ми сегментный 1 разрядный цифровой индикатор; Назначение: Длительность
pins: 1 DIG (out), 2 F (out), 3 G (out), 4 E (out), 5 D (out), 6 DIG (out), 7 DP (out), 8 C (out), 9 B (out), 10 A (out)
text: DPY LED

## Elfa 35-365-47
designator SA?
Ползунковый переключатель
footprint Elfa 35-365-47
pins: 1, 2, 3

## FDMD8240L
designator VT?, comment FDMD8240LET40
N-канальный транзистор сдвоенный; Manufacturer: Fairchild; T (°C) Ambient: -55...+150; Vgs: 20В; Rds: 2,6mOhm; Id: 23А; Vds: 40В; Name: FDMD8240LET40
pins: 1 D1, 2 D1, 3 D1, 4 G2, 5 S2, 6 S2, 7 D2/S1, 8 D2/S1, 9 D2/S1, 10 D2/S1, 11 G1R, 12 G1, 13 D2, 14 S3

## ferrite coil
designator L?
Катушка индуктивности
footprint L0603_A
footprint L0603_H
footprint CDRH4D28C_A
footprint CDRH4D28C_H
footprint SRU1048_A
footprint SRU1048_H
footprint RCR-875D
footprint CDRH3D16
footprint L0402_A
footprint CDRH2D18/HP
footprint L0805_A
footprint L1210_A
footprint XFL4020
pins: 1, 2

## Fuse
designator FU?
Предохранитель; Value: XXX
footprint R0805_A
footprint R0805_H
footprint R0603_A
footprint R0402_H
pins: 1, 2

## Fuse_SDFXXXX
designator FU?
Предохранитель модный; Value: XXX
footprint R0805_A
footprint R0805_H
footprint R0603_A
footprint R0402_H
pins: 1, 2, 3

## Header_1_trm
designator X?
Разъем - 1 конт. клемма; Contact_1: Contact_1
footprint 0.25-STANDOFF
pins: 1
text: Цепь; Конт.

## Header_2_plg
designator X?
Разъем - 2 конт. вилка; Contact_1: Contact_1; Contact_2: Contact_2
footprint MOLEX_picoblade_2
footprint MW-2M
footprint MW-2MR
footprint PWL-2R
footprint Terminal_2.54-2
footprint PBS2-2
pins: 1, 2
text: Цепь

## Header_2_sct
designator X?
Разъем - 2 конт. розетка; Contact_1: Contact_1; Contact_2: Contact_2
footprint MOLEX_picoblade_2
footprint MW-2M
footprint MW-2MR
footprint PWL-2R
footprint Terminal_2.54-2
footprint PBS2-2
footprint SMA-JR
footprint Nokia_charge
pins: 1, 2
text: Цепь

## Header_2_sld
designator X?
Разъем - 2 конт. пайка; Contact_1: Contact_1; Contact_2: Contact_2
footprint MOLEX_picoblade_2
footprint MW-2M
footprint MW-2MR
footprint PWL-2R
footprint Terminal_2.54-2
footprint PBS2-2
pins: 1, 2
text: Цепь

## Header_2_trm
designator X?
Разъем - 2 конт. клемма; Contact_1: Contact_1; Contact_2: Contact_2
footprint MOLEX_picoblade_2
footprint MW-2M
footprint MW-2MR
footprint PWL-2R
footprint Terminal_2.54-2
footprint PBS2-2
pins: 1, 2
text: Цепь

## Header_2_trm_1
designator X?
Разъем - 2 конт. клемма; Contact_1: Contact_1; Contact_2: Contact_2
footprint MOLEX_picoblade_2
footprint MW-2M
footprint MW-2MR
footprint PWL-2R
footprint Terminal_2.54-2
footprint PBS2-2
pins: 3, 4
text: Цепь

## Header_2_trm_2
designator X?
Разъем - 2 конт. клемма; Contact_1: Contact_1; Contact_2: Contact_2
footprint MOLEX_picoblade_2
footprint MW-2M
footprint MW-2MR
footprint PWL-2R
footprint Terminal_2.54-2
footprint PBS2-2
pins: 5, 6
text: Цепь

## Header_2_trm_3
designator X?
Разъем - 2 конт. клемма; Contact_1: Contact_1; Contact_2: Contact_2
footprint MOLEX_picoblade_2
footprint MW-2M
footprint MW-2MR
footprint PWL-2R
footprint Terminal_2.54-2
footprint PBS2-2
pins: 7, 8
text: Цепь

## Header_2_trm_4
designator X?
Разъем - 2 конт. клемма; Contact_1: Contact_1; Contact_2: Contact_2
footprint MOLEX_picoblade_2
footprint MW-2M
footprint MW-2MR
footprint PWL-2R
footprint Terminal_2.54-2
footprint PBS2-2
pins: 9, 10
text: Цепь

## Header_2_trm_5
designator X?
Разъем - 2 конт. клемма; Contact_1: Contact_1; Contact_2: Contact_2
footprint MOLEX_picoblade_2
footprint MW-2M
footprint MW-2MR
footprint PWL-2R
footprint Terminal_2.54-2
footprint PBS2-2
pins: 11, 12
text: Цепь

## Header_3_plg
designator X?
Разъем - 3 конт. вилка; Contact_1: Contact_1; Contact_2: Contact_2; Contact_3: Contact_3
footprint PLS2-3
footprint MOLEX_picoblade_3
footprint MOLEX_picoblade_3R
footprint PWL-3R
footprint Terminal_2.54-3
pins: 1, 2, 3
text: Цепь

## Header_3_trm
designator X?
Разъем - 3 конт. колодка; Contact_1: Contact_1; Contact_2: Contact_2; Contact_3: Contact_3
footprint PLS2-3
footprint MOLEX_picoblade_3
footprint MOLEX_picoblade_3R
footprint PWL-3R
footprint Terminal_2.54-3
pins: 1, 2, 3
text: Цепь

## Header_4_plg
designator X?
Разъем - 4 конт. вилка; Contact_1: Contact_1; Contact_2: Contact_2; Contact_3: Contact_3; Contact_4: Contact_4; Manufacture: *; Current: *
footprint MOLEX_picoblade_4
footprint MOLEX_picoblade_4R
footprint MW-4M
footprint MW-4MR
pins: 1, 2, 3, 4
text: Цепь; Конт.

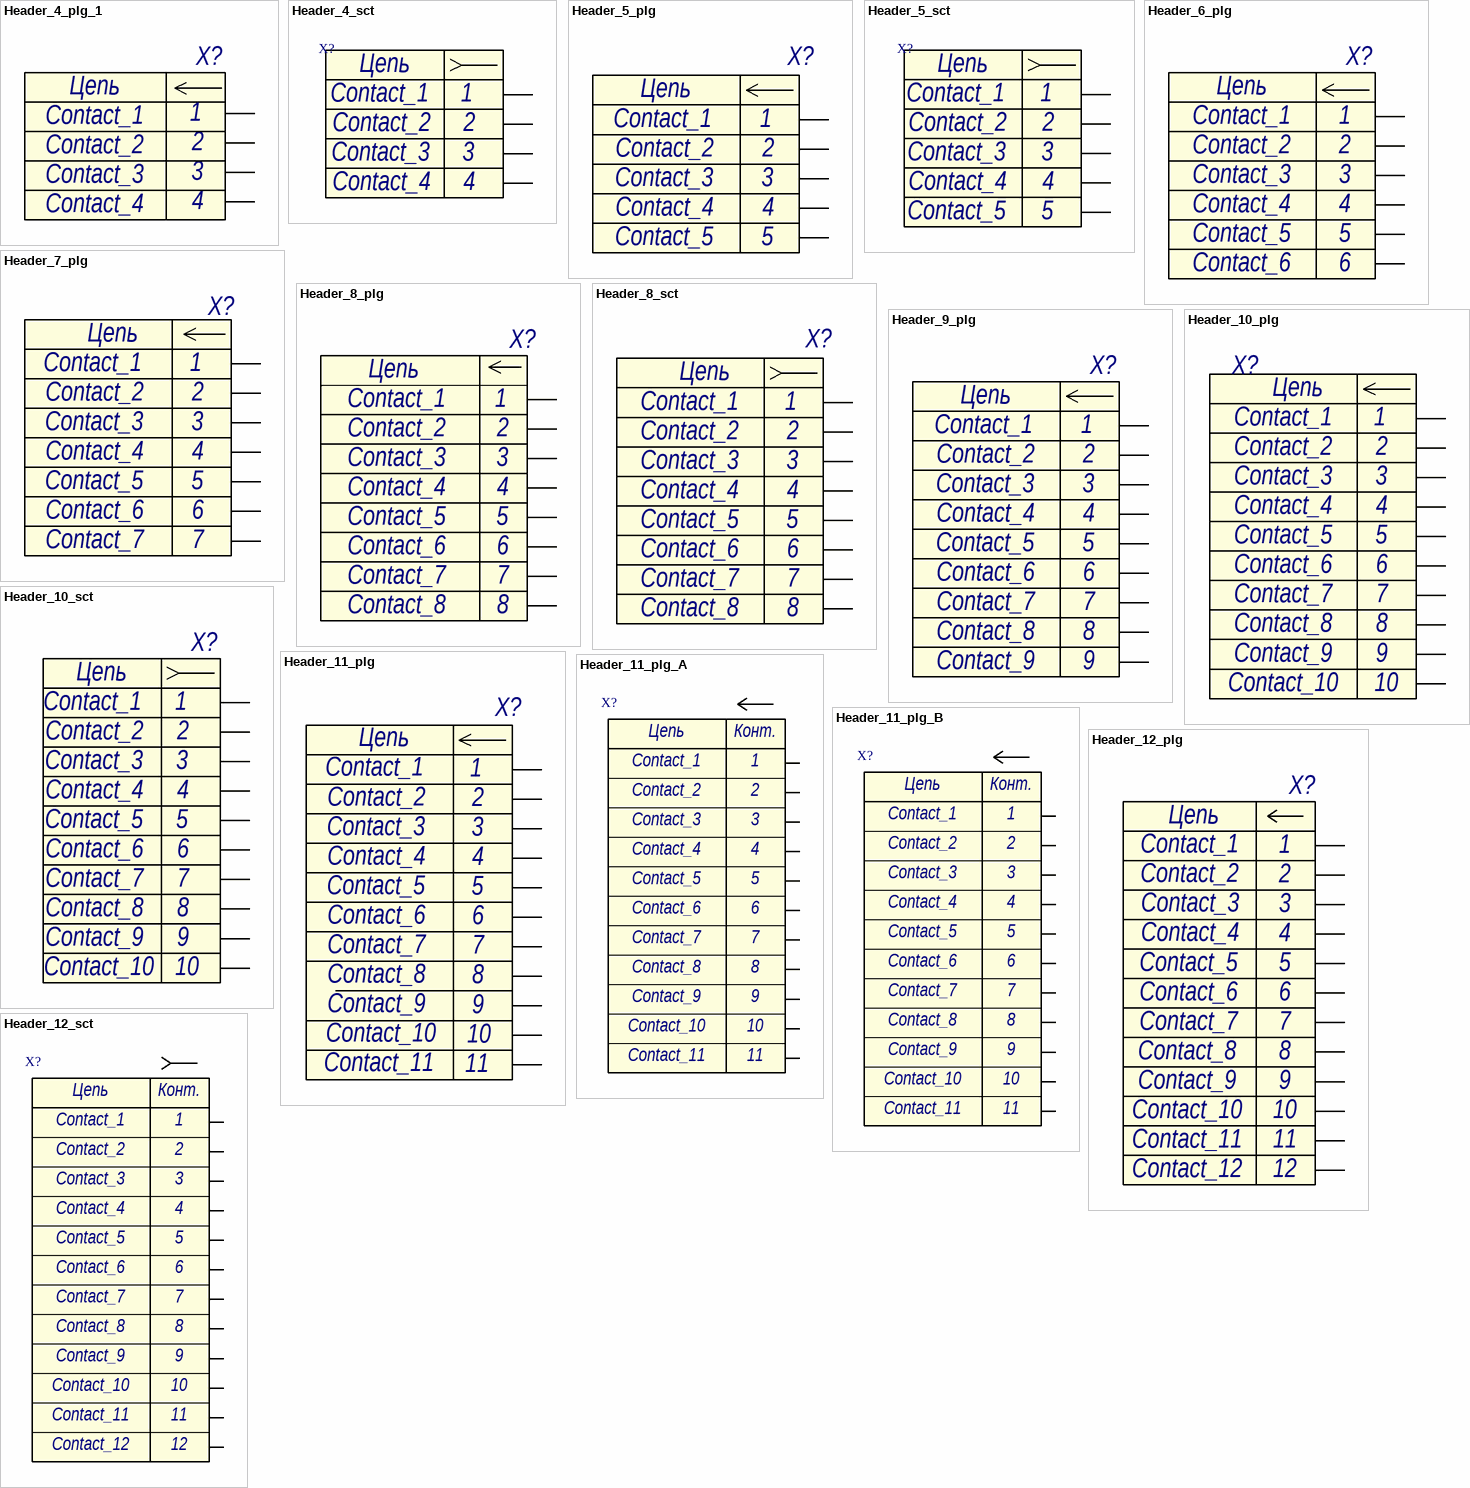
[diagram p6: symbols Header_4_plg_1 to Header_12_sct]

## Header_4_plg_1
designator X?
Разъем - 4 конт. вилка; Contact_1: Contact_1; Contact_2: Contact_2; Contact_3: Contact_3; Contact_4: Contact_4
footprint MOLEX_picoblade_4
footprint MOLEX_picoblade_4R
footprint MW-4M
footprint MW-4MR
pins: 1, 2, 3, 4
text: Цепь

## Header_4_sct
designator X?
Разъем - 4 конт. розетка; Contact_1: Contact_1; Contact_2: Contact_2; Contact_3: Contact_3; Contact_4: Contact_4
footprint MOLEX_picoblade_4
footprint MOLEX_picoblade_4R
footprint MW-4MR
footprint MW-4M
pins: 1, 2, 3, 4
text: Цепь

## Header_5_plg
designator X?
Разъем - 5 конт. вилка; Contact_1: Contact_1; Contact_2: Contact_2; Contact_3: Contact_3; Contact_4: Contact_4; Contact_5: Contact_5; Current: *; Manufacture: *
footprint MOLEX_picoblade_5
footprint MW-5M
footprint MW-5MR
footprint PLS2-5
footprint USB-Mini DIP
footprint USB-Mini
pins: 1, 2, 3, 4, 5
text: Цепь

## Header_5_sct
designator X?
Разъем - 5 конт. розетка; Contact_1: Contact_1; Contact_2: Contact_2; Contact_3: Contact_3; Contact_4: Contact_4; Contact_5: Contact_5
footprint MOLEX_picoblade_5
footprint MW-5M
footprint MW-5MR
pins: 1, 2, 3, 4, 5
text: Цепь

## Header_6_plg
designator X?
Разъем - 6 конт. вилка; Contact_1: Contact_1; Contact_2: Contact_2; Contact_3: Contact_3; Contact_4: Contact_4; Contact_5: Contact_5; Contact_6: Contact_6
footprint MOLEX_picoblade_6
footprint MW-6M
pins: 1, 2, 3, 4, 5, 6
text: Цепь

## Header_7_plg
designator X?
Разъем - 7 конт. вилка; Contact_1: Contact_1; Contact_2: Contact_2; Contact_3: Contact_3; Contact_4: Contact_4; Contact_5: Contact_5; Contact_6: Contact_6; Contact_7: Contact_7
footprint MOLEX_picoblade_7
pins: 1, 2, 3, 4, 5, 6, 7
text: Цепь

## Header_8_plg
designator X?
Разъем - 8 конт. вилка; Contact_1: Contact_1; Contact_2: Contact_2; Contact_3: Contact_3; Contact_4: Contact_4; Contact_5: Contact_5; Contact_6: Contact_6; Contact_7: Contact_7; Contact_8: Contact_8; Manufacture: *
footprint MOLEX_picoblade_8
pins: 1, 2, 3, 4, 5, 6, 7, 8
text: Цепь

## Header_8_sct
designator X?
Разъем - 8 конт. розетка; Contact_1: Contact_1; Contact_2: Contact_2; Contact_3: Contact_3; Contact_4: Contact_4; Contact_5: Contact_5; Contact_6: Contact_6; Contact_7: Contact_7; Contact_8: Contact_8
footprint MOLEX_picoblade_8
pins: 1, 2, 3, 4, 5, 6, 7, 8
text: Цепь

## Header_9_plg
designator X?
Разъем - 9 конт. вилка; Contact_1: Contact_1; Contact_2: Contact_2; Contact_3: Contact_3; Contact_4: Contact_4; Contact_5: Contact_5; Contact_6: Contact_6; Contact_7: Contact_7; Contact_8: Contact_8; Contact_9: Contact_9
pins: 1, 2, 3, 4, 5, 6, 7, 8, 9
text: Цепь

## Header_10_plg
designator X?
Разъем - 10 конт. вилка; Contact_1: Contact_1; Contact_2: Contact_2; Contact_3: Contact_3; Contact_4: Contact_4; Contact_5: Contact_5; Contact_6: Contact_6; Contact_7: Contact_7; Contact_8: Contact_8; Contact_9: Contact_9; Contact_10: Contact_10; Manufacture: *; Current: *; Parameter 1: *
footprint PLLD1.27-10S (PLDD-1.27)
pins: 1, 2, 3, 4, 5, 6, 7, 8, 9, 10
text: Цепь

## Header_10_sct
designator X?
Разъем - 10 конт. розетка; Contact_1: Contact_1; Contact_2: Contact_2; Contact_3: Contact_3; Contact_4: Contact_4; Contact_5: Contact_5; Contact_6: Contact_6; Contact_7: Contact_7; Contact_8: Contact_8; Contact_9: Contact_9; Contact_10: Contact_10
footprint MOLEX_52207-1085
footprint PBS2-10
footprint PBS2-10S
pins: 1, 2, 3, 4, 5, 6, 7, 8, 9, 10
text: Цепь

## Header_11_plg
designator X?
Разъем - 11 конт. вилка; Contact_1: Contact_1; Contact_2: Contact_2; Contact_3: Contact_3; Contact_4: Contact_4; Contact_5: Contact_5; Contact_6: Contact_6; Contact_7: Contact_7; Contact_8: Contact_8; Contact_9: Contact_9; Contact_10: Contact_10; Contact_11: Contact_11
pins: 1, 2, 3, 4, 5, 6, 7, 8, 9, 10, 11
text: Цепь

## Header_11_plg_A
designator X?
Разъем - 11 конт. вилка; Contact_1: Contact_1; Contact_2: Contact_2; Contact_3: Contact_3; Contact_4: Contact_4; Contact_5: Contact_5; Contact_6: Contact_6; Contact_7: Contact_7; Contact_8: Contact_8; Contact_9: Contact_9; Contact_10: Contact_10; Contact_11: Contact_11
pins: A1 1, A2 2, A3 3, A4 4, A5 5, A6 6, A7 7, A8 8, A9 9, A10 10, A11 11
text: Цепь; Конт.

## Header_11_plg_B
designator X?
Разъем - 11 конт. вилка; Contact_1: Contact_1; Contact_2: Contact_2; Contact_3: Contact_3; Contact_4: Contact_4; Contact_5: Contact_5; Contact_6: Contact_6; Contact_7: Contact_7; Contact_8: Contact_8; Contact_9: Contact_9; Contact_10: Contact_10; Contact_11: Contact_11
pins: B1 1, B2 2, B3 3, B4 4, B5 5, B6 6, B7 7, B8 8, B9 9, B10 10, B11 11
text: Цепь; Конт.

## Header_12_plg
designator X?
Разъем - 12 plg; Contact_4: Contact_4; Contact_5: Contact_5; Contact_6: Contact_6; Contact_7: Contact_7; Contact_8: Contact_8; Contact_9: Contact_9; Contact_10: Contact_10; Contact_11: Contact_11; Contact_12: Contact_12; Contact_1: Contact_1; Contact_2: Contact_2; Contact_3: Contact_3
footprint PBS2-12
footprint PBS2-12S
pins: 1, 2, 3, 4, 5, 6, 7, 8, 9, 10, 11, 12
text: Цепь

## Header_12_sct
designator X?
Разъем - 12 конт. розетка; Contact_1: Contact_1; Contact_2: Contact_2; Contact_3: Contact_3; Contact_4: Contact_4; Contact_5: Contact_5; Contact_6: Contact_6; Contact_7: Contact_7; Contact_8: Contact_8; Contact_9: Contact_9; Contact_10: Contact_10; Contact_11: Contact_11; Contact_12: Contact_12
footprint PBS2-12
footprint PBS2-12S
pins: 1, 2, 3, 4, 5, 6, 7, 8, 9, 10, 11, 12
text: Цепь; Конт.

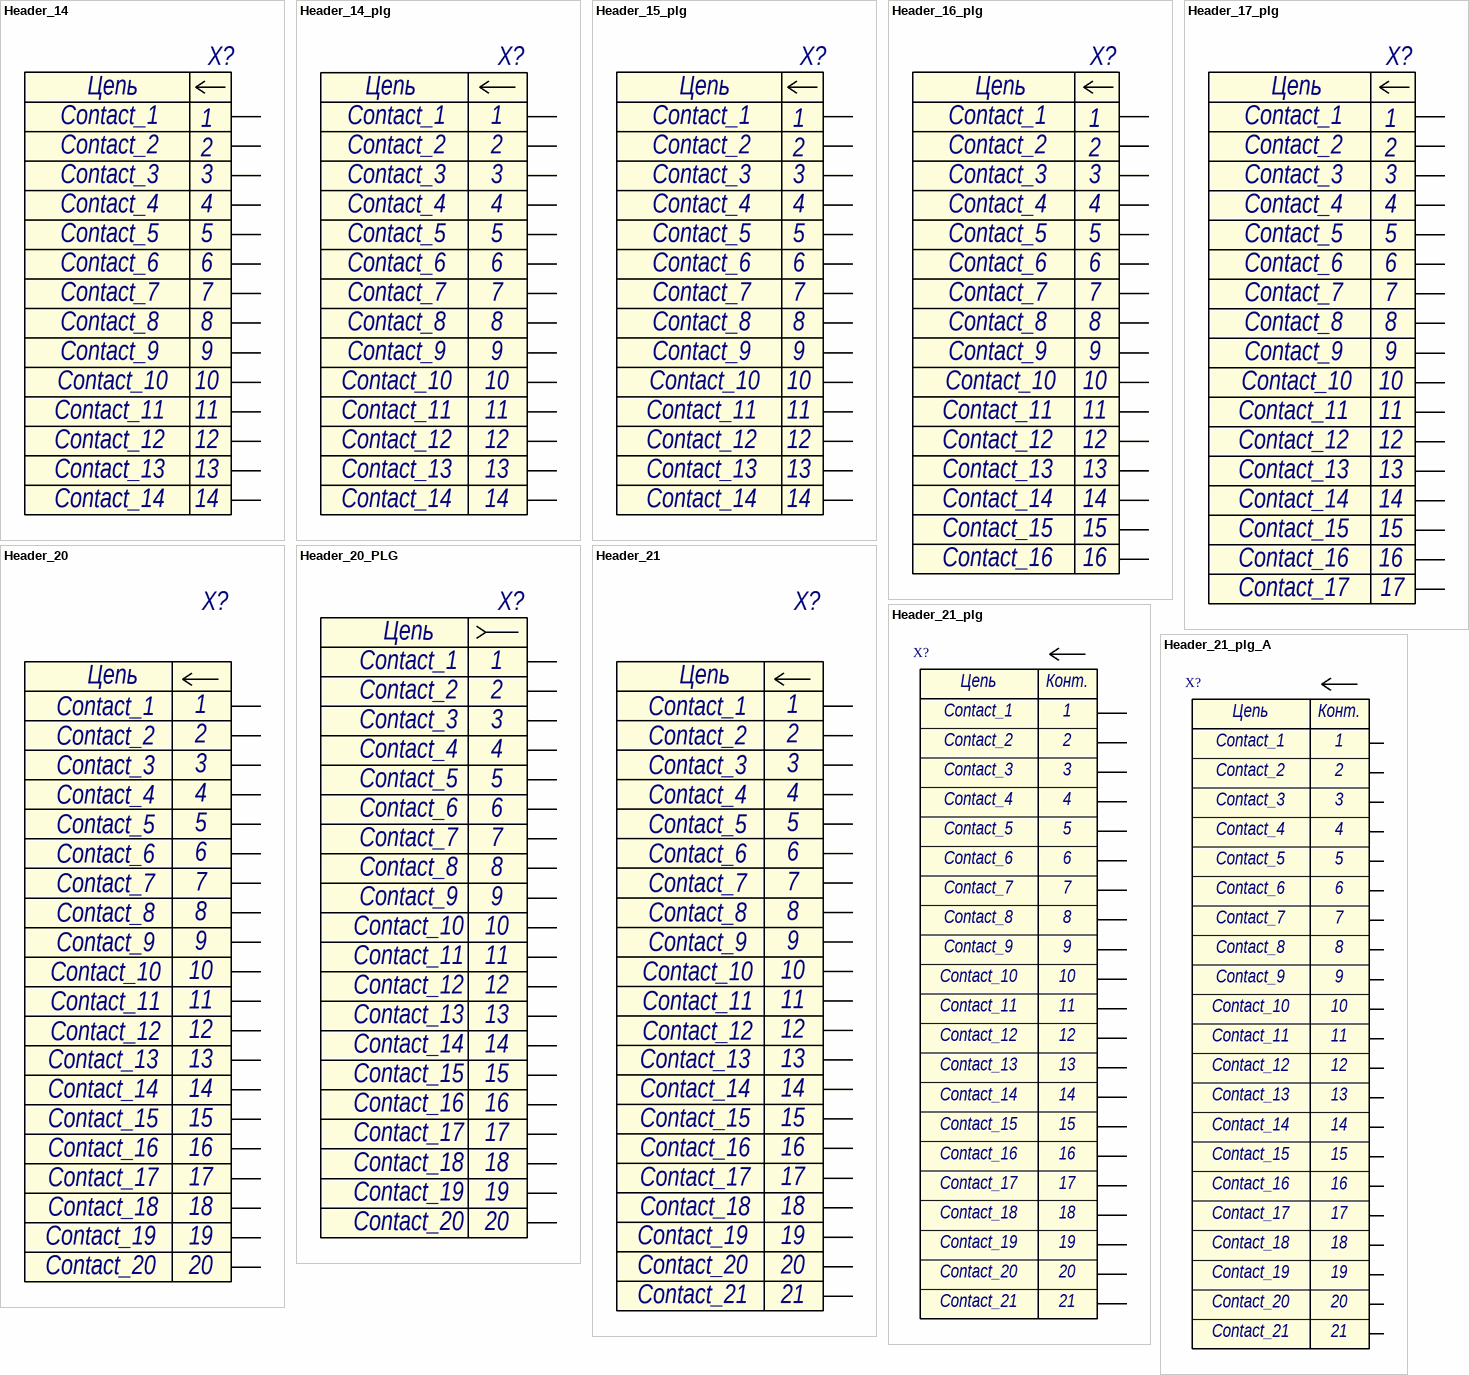
[diagram p7: symbols Header_14 to Header_21_plg_A]

## Header_14
designator X?
Разъем - 14; Contact_4: Contact_4; Contact_5: Contact_5; Contact_6: Contact_6; Contact_7: Contact_7; Contact_8: Contact_8; Contact_9: Contact_9; Contact_10: Contact_10; Contact_11: Contact_11; Contact_12: Contact_12; Contact_1: Contact_1; Contact_2: Contact_2; Contact_3: Contact_3; Contact_14: Contact_14; Contact_13: Contact_13; Manufacture: *
footprint PBS2-12
footprint PBS2-12S
pins: 1, 2, 3, 4, 5, 6, 7, 8, 9, 10, 11, 12, 13, 14
text: Цепь

## Header_14_plg
designator X?
Разъем - 14 plg; Contact_4: Contact_4; Contact_5: Contact_5; Contact_6: Contact_6; Contact_7: Contact_7; Contact_8: Contact_8; Contact_9: Contact_9; Contact_10: Contact_10; Contact_11: Contact_11; Contact_12: Contact_12; Contact_1: Contact_1; Contact_2: Contact_2; Contact_3: Contact_3; Contact_14: Contact_14; Contact_13: Contact_13
footprint PBS2-12
footprint PBS2-12S
pins: 1, 2, 3, 4, 5, 6, 7, 8, 9, 10, 11, 12, 13, 14
text: Цепь

## Header_15_plg
designator X?
Разъем - 16 plg; Contact_4: Contact_4; Contact_5: Contact_5; Contact_6: Contact_6; Contact_7: Contact_7; Contact_8: Contact_8; Contact_9: Contact_9; Contact_10: Contact_10; Contact_11: Contact_11; Contact_12: Contact_12; Contact_1: Contact_1; Contact_2: Contact_2; Contact_3: Contact_3; Contact_14: Contact_14; Contact_13: Contact_13; Contact_15: Contact_15; Contact_16: Contact_16; Manufacture: *
footprint PBS2-12
footprint PBS2-12S
pins: 1, 2, 3, 4, 5, 6, 7, 8, 9, 10, 11, 12, 13, 14
text: Цепь

## Header_16_plg
designator X?
Разъем - 16 plg; Contact_4: Contact_4; Contact_5: Contact_5; Contact_6: Contact_6; Contact_7: Contact_7; Contact_8: Contact_8; Contact_9: Contact_9; Contact_10: Contact_10; Contact_11: Contact_11; Contact_12: Contact_12; Contact_1: Contact_1; Contact_2: Contact_2; Contact_3: Contact_3; Contact_14: Contact_14; Contact_13: Contact_13; Contact_15: Contact_15; Contact_16: Contact_16
footprint PBS2-12
footprint PBS2-12S
pins: 1, 2, 3, 4, 5, 6, 7, 8, 9, 10, 11, 12, 13, 14, 15, 16
text: Цепь

## Header_17_plg
designator X?
Разъем - 17 plg; Contact_4: Contact_4; Contact_5: Contact_5; Contact_6: Contact_6; Contact_7: Contact_7; Contact_8: Contact_8; Contact_9: Contact_9; Contact_10: Contact_10; Contact_11: Contact_11; Contact_12: Contact_12; Contact_1: Contact_1; Contact_2: Contact_2; Contact_3: Contact_3; Contact_14: Contact_14; Contact_13: Contact_13; Contact_15: Contact_15; Contact_16: Contact_16; Contact_17: Contact_17; Contact_18: Contact_18
footprint PBS2-12
footprint PBS2-12S
pins: 1, 2, 3, 4, 5, 6, 7, 8, 9, 10, 11, 12, 13, 14, 15, 16, 17
text: Цепь

## Header_20
designator X?
Разъем - 20 конт. мамка; Contact_1: Contact_1; Contact_2: Contact_2; Contact_3: Contact_3; Contact_4: Contact_4; Contact_5: Contact_5; Contact_6: Contact_6; Contact_7: Contact_7; Contact_8: Contact_8; Contact_9: Contact_9; Contact_10: Contact_10; Contact_11: Contact_11; Contact_12: Contact_12; Contact_13: Contact_13; Contact_14: Contact_14; Contact_15: Contact_15; Contact_16: Contact_16; Contact_17: Contact_17; Contact_18: Contact_18; Contact_19: Contact_19; Contact_20: Contact_20
footprint M50-430 Socket 2x10
footprint M50-490 Socket 2x10
pins: 1, 2, 3, 4, 5, 6, 7, 8, 9, 10, 11, 12, 13, 14, 15, 16, 17, 18, 19, 20
text: Цепь

## Header_20_PLG
designator X?
Разъем - 20 конт. мамка; Contact_1: Contact_1; Contact_2: Contact_2; Contact_3: Contact_3; Contact_4: Contact_4; Contact_5: Contact_5; Contact_6: Contact_6; Contact_7: Contact_7; Contact_8: Contact_8; Contact_9: Contact_9; Contact_10: Contact_10; Contact_11: Contact_11; Contact_12: Contact_12; Contact_13: Contact_13; Contact_14: Contact_14; Contact_15: Contact_15; Contact_16: Contact_16; Contact_17: Contact_17; Contact_18: Contact_18; Contact_19: Contact_19; Contact_20: Contact_20
footprint M50-430 Socket 2x10
footprint M50-490 Socket 2x10
pins: 1, 2, 3, 4, 5, 6, 7, 8, 9, 10, 11, 12, 13, 14, 15, 16, 17, 18, 19, 20
text: Цепь

## Header_21
designator X?
Разъем - 20 конт. мамка; Contact_1: Contact_1; Contact_2: Contact_2; Contact_3: Contact_3; Contact_4: Contact_4; Contact_5: Contact_5; Contact_6: Contact_6; Contact_7: Contact_7; Contact_8: Contact_8; Contact_9: Contact_9; Contact_10: Contact_10; Contact_11: Contact_11; Contact_12: Contact_12; Contact_13: Contact_13; Contact_14: Contact_14; Contact_15: Contact_15; Contact_16: Contact_16; Contact_17: Contact_17; Contact_18: Contact_18; Contact_19: Contact_19; Contact_20: Contact_20; Contact_21: Contact_21
footprint M50-430 Socket 2x10
footprint M50-490 Socket 2x10
pins: 1, 2, 3, 4, 5, 6, 7, 8, 9, 10, 11, 12, 13, 14, 15, 16, 17, 18, 19, 20, 20
text: Цепь; 21

## Header_21_plg
designator X?
Разъем - 21 конт. вилка; Contact_1: Contact_1; Contact_2: Contact_2; Contact_3: Contact_3; Contact_4: Contact_4; Contact_5: Contact_5; Contact_6: Contact_6; Contact_7: Contact_7; Contact_8: Contact_8; Contact_9: Contact_9; Contact_10: Contact_10; Contact_11: Contact_11; Contact_12: Contact_12; Contact_13: Contact_13; Contact_14: Contact_14; Contact_15: Contact_15; Contact_16: Contact_16; Contact_17: Contact_17; Contact_18: Contact_18; Contact_19: Contact_19; Contact_20: Contact_20; Contact_21: Contact_21
footprint PCI_21
pins: 1, 2, 3, 4, 5, 6, 7, 8, 9, 10, 11, 12, 13, 14, 15, 16, 17, 18, 19, 20, 21
text: Цепь; Конт.

## Header_21_plg_A
designator X?
Разъем - 21 конт. вилка; Contact_1: Contact_1; Contact_2: Contact_2; Contact_3: Contact_3; Contact_4: Contact_4; Contact_5: Contact_5; Contact_6: Contact_6; Contact_7: Contact_7; Contact_8: Contact_8; Contact_9: Contact_9; Contact_10: Contact_10; Contact_11: Contact_11; Contact_12: Contact_12; Contact_13: Contact_13; Contact_14: Contact_14; Contact_15: Contact_15; Contact_16: Contact_16; Contact_17: Contact_17; Contact_18: Contact_18; Contact_19: Contact_19; Contact_20: Contact_20; Contact_21: Contact_21
footprint PCI_21
pins: A1 1, A2 2, A3 3, A4 4, A5 5, A6 6, A7 7, A8 8, A9 9, A10 10, A11 11, A12 12, A13 13, A14 14, A15 15, A16 16, A17 17, A18 18, A19 19, A20 20, A21 21
text: Цепь; Конт.

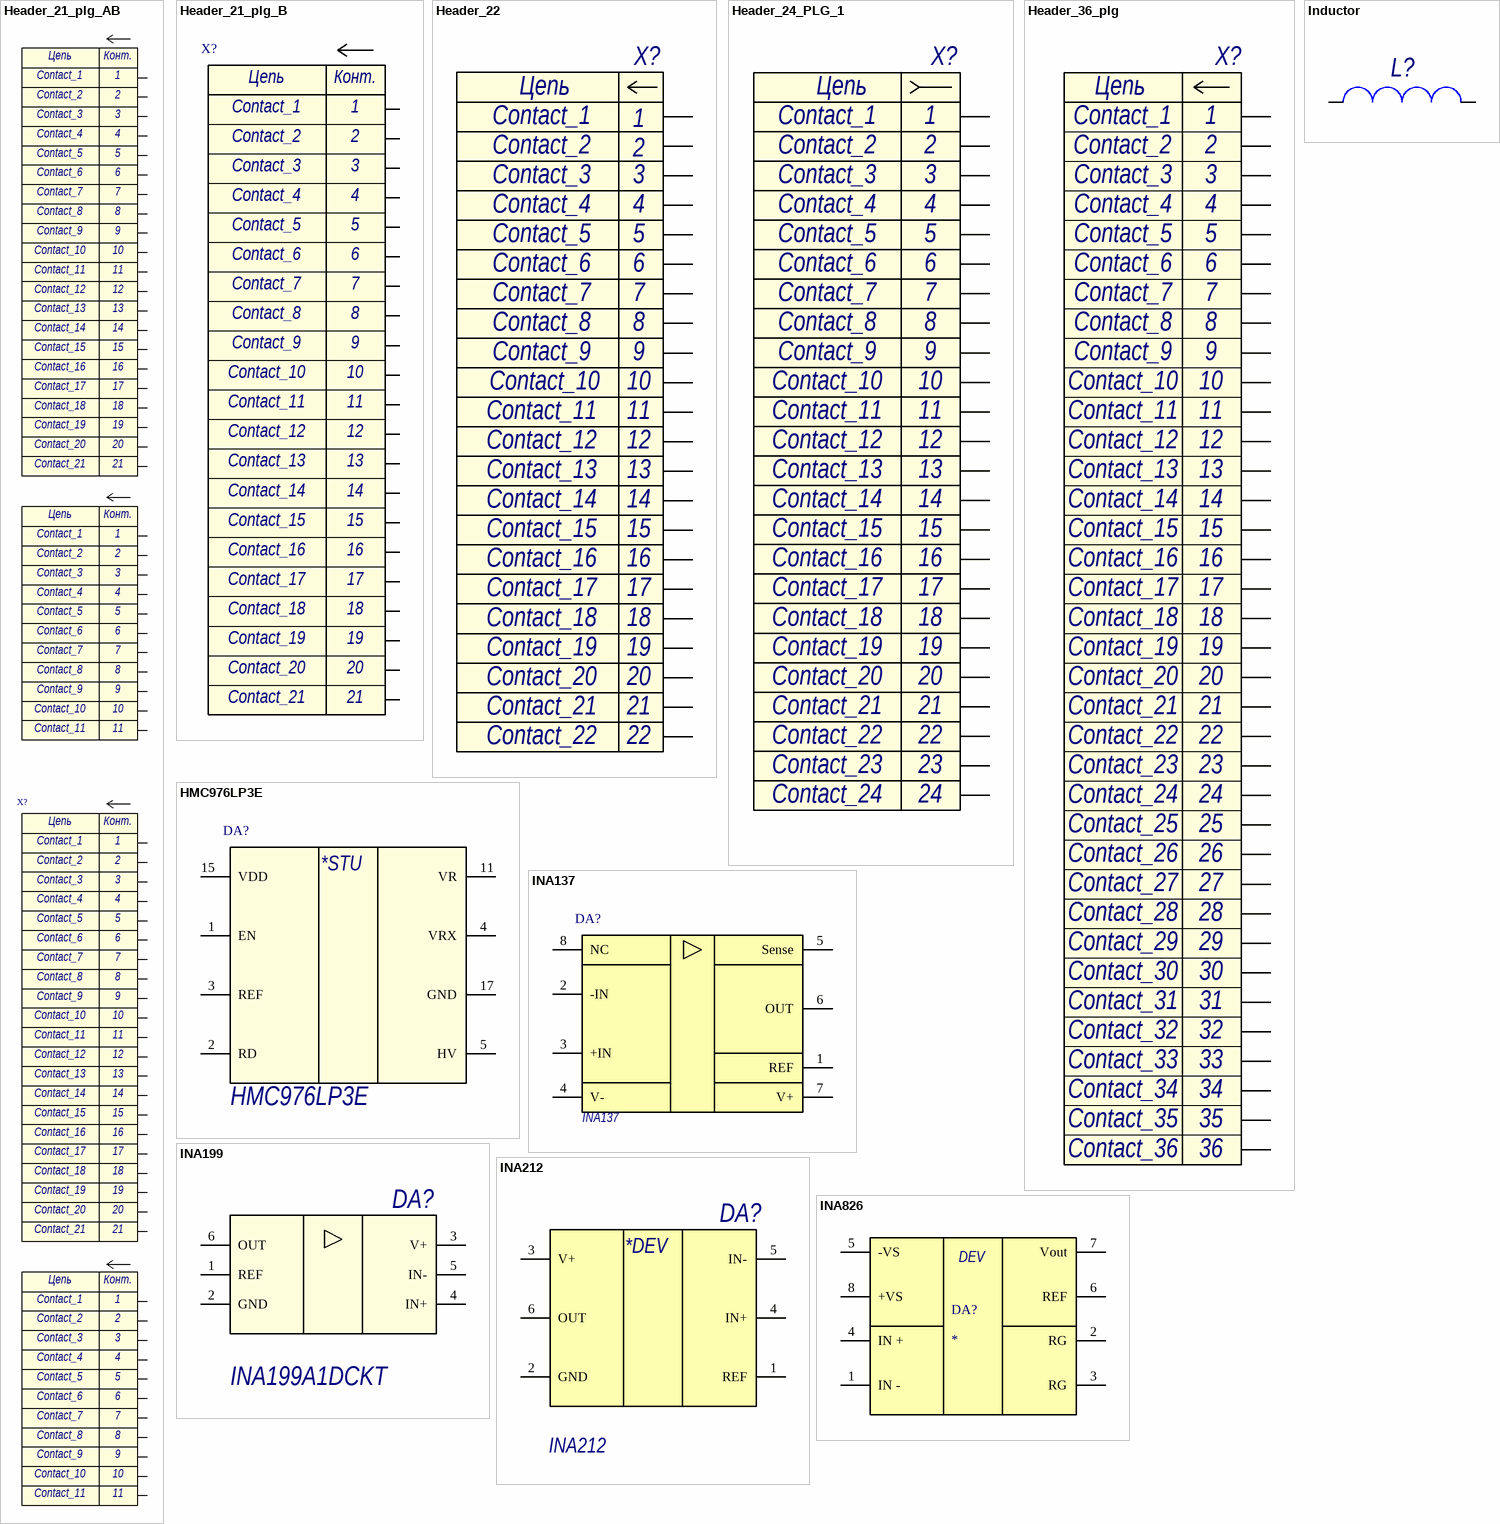
[diagram p8: symbols Header_21_plg_AB to Inductor]

## Header_21_plg_AB
designator X?
Разъем - 21 конт. вилка; Contact_1: Contact_1; Contact_2: Contact_2; Contact_3: Contact_3; Contact_4: Contact_4; Contact_5: Contact_5; Contact_6: Contact_6; Contact_7: Contact_7; Contact_8: Contact_8; Contact_9: Contact_9; Contact_10: Contact_10; Contact_11: Contact_11; Contact_12: Contact_12; Contact_13: Contact_13; Contact_14: Contact_14; Contact_15: Contact_15; Contact_16: Contact_16; Contact_17: Contact_17; Contact_18: Contact_18; Contact_19: Contact_19; Contact_20: Contact_20; Contact_21: Contact_21
footprint PCI_32
pins: A1 1, A2 2, A3 3, A4 4, A5 5, A6 6, A7 7, A8 8, A9 9, A10 10, A11 11, A12 12, A13 13, A14 14, A15 15, A16 16, A17 17, A18 18, A19 19, A20 20, A21 21, A22 1, A23 2, A24 3, A25 4, A26 5, A27 6, A28 7, A29 8, A30 9, A31 10, A32 11, B1 1, B2 2, B3 3, B4 4, B5 5, B6 6, B7 7, B8 8, B9 9, B10 10, B11 11, B12 12, B13 13, B14 14, B15 15, B16 16, B17 17, B18 18, B19 19, B20 20, B21 21, B22 1, B23 2, B24 3, B25 4, B26 5, B27 6, B28 7, B29 8, B30 9, B31 10, B32 11
text: Цепь; Конт.

## Header_21_plg_B
designator X?
Разъем - 21 конт. вилка; Contact_1: Contact_1; Contact_2: Contact_2; Contact_3: Contact_3; Contact_4: Contact_4; Contact_5: Contact_5; Contact_6: Contact_6; Contact_7: Contact_7; Contact_8: Contact_8; Contact_9: Contact_9; Contact_10: Contact_10; Contact_11: Contact_11; Contact_12: Contact_12; Contact_13: Contact_13; Contact_14: Contact_14; Contact_15: Contact_15; Contact_16: Contact_16; Contact_17: Contact_17; Contact_18: Contact_18; Contact_19: Contact_19; Contact_20: Contact_20; Contact_21: Contact_21
footprint PCI_21
pins: B1 1, B2 2, B3 3, B4 4, B5 5, B6 6, B7 7, B8 8, B9 9, B10 10, B11 11, B12 12, B13 13, B14 14, B15 15, B16 16, B17 17, B18 18, B19 19, B20 20, B21 21
text: Цепь; Конт.

## Header_22
designator X?
Разъем - 22; Contact_4: Contact_4; Contact_5: Contact_5; Contact_6: Contact_6; Contact_7: Contact_7; Contact_8: Contact_8; Contact_9: Contact_9; Contact_10: Contact_10; Contact_11: Contact_11; Contact_12: Contact_12; Contact_1: Contact_1; Contact_2: Contact_2; Contact_3: Contact_3; Contact_14: Contact_14; Contact_13: Contact_13; Contact_15: Contact_15; Contact_16: Contact_16; Contact_17: Contact_17; Contact_18: Contact_18; Contact_19: Contact_19; Contact_20: Contact_20; Contact_21: Contact_21; Contact_22: Contact_22
footprint PBS2-12
footprint PBS2-12S
pins: 1, 2, 3, 4, 5, 6, 7, 8, 9, 10, 11, 12, 13, 14, 15, 15, 15, 15, 15, 15, 15, 15
text: Цепь; 16; 17; 18; 19; 20; 21; 22

## Header_24_PLG_1
designator X?
Разъем - 24 конт. мамка; Contact_1: Contact_1; Contact_2: Contact_2; Contact_3: Contact_3; Contact_4: Contact_4; Contact_5: Contact_5; Contact_6: Contact_6; Contact_7: Contact_7; Contact_8: Contact_8; Contact_9: Contact_9; Contact_10: Contact_10; Contact_11: Contact_11; Contact_12: Contact_12; Contact_13: Contact_13; Contact_14: Contact_14; Contact_15: Contact_15; Contact_16: Contact_16; Contact_17: Contact_17; Contact_18: Contact_18; Contact_19: Contact_19; Contact_20: Contact_20; Contact_22: Contact_22; Contact_23: Contact_23; Contact_21: Contact_21; Contact_24: Contact_24
footprint M50-430 Socket 2x10
footprint M50-490 Socket 2x10
pins: 1, 2, 3, 4, 5, 6, 7, 8, 9, 10, 11, 12, 13, 14, 15, 16, 17, 18, 19, 20, 21, 22, 23, 24
text: Цепь

## Header_36_plg
designator X?
Разъем - 36 plg; Contact_4: Contact_4; Contact_5: Contact_5; Contact_6: Contact_6; Contact_7: Contact_7; Contact_8: Contact_8; Contact_9: Contact_9; Contact_10: Contact_10; Contact_11: Contact_11; Contact_12: Contact_12; Contact_13: Contact_13; Contact_1: Contact_1; Contact_2: Contact_2; Contact_3: Contact_3; Contact_14: Contact_14; Contact_15: Contact_15; Contact_16: Contact_16; Contact_17: Contact_17; Contact_18: Contact_18; Contact_19: Contact_19; Contact_20: Contact_20; Contact_21: Contact_21; Contact_22: Contact_22; Contact_23: Contact_23; Contact_24: Contact_24; Contact_25: Contact_25; Contact_26: Contact_26; Contact_27: Contact_27; Contact_28: Contact_28; Contact_29: Contact_29; Contact_30: Contact_30; Contact_31: Contact_31; Contact_32: Contact_32; Contact_33: Contact_33; Contact_34: Contact_34; Contact_35: Contact_35; Contact_36: Contact_36
footprint PBS2-12
footprint PBS2-12S
pins: 1, 2, 3, 4, 5, 6, 7, 8, 9, 10, 11, 12, 13, 14, 15, 16, 17, 18, 19, 20, 21, 22, 23, 24, 25, 26, 27, 28, 29, 30, 31, 32, 33, 34, 35, 36
text: Цепь

## HMC976LP3E
designator DA?
400mA Low-NOISE Linear Regulator; Name: HMC976LP3E
pins: 1 EN, 2 RD, 3 REF, 4 VRX, 5 HV, 11 VR, 15 VDD, 17 GND
text: *STU

## INA137
designator DA?
audio receiver; Name: INA137
footprint SO8_H
footprint SO8_A
pins: 1 REF, 2 -IN, 3 +IN, 4 V-, 5 Sense, 6 OUT, 7 V+, 8 NC

## INA199
designator DA?, comment INA199A1DCKT
Voltage output current shunt monitor
pins: 1 REF, 2 GND, 3 V+, 4 IN+, 5 IN-, 6 OUT

## INA212
designator DA?
Zero-Drift Series, Current-Shunt Monitor; Name: INA212
footprint SOT23-6_A
footprint SOT23-6_H
pins: 1 REF, 2 GND, 3 V+, 4 IN+, 5 IN-, 6 OUT
text: *DEV

## INA826
designator DA?
footprint MSOP-8LD
pins: 1 IN - , 2 RG, 3 RG, 4 IN + , 5 -VS, 6 REF, 7 Vout, 8 +VS
text: DEV

## Inductor
designator L?
Катушка индуктивности
footprint L0603_A
footprint L0603_H
footprint CDRH4D28C_A
footprint CDRH4D28C_H
footprint SRU1048_A
footprint SRU1048_H
footprint RCR-875D
footprint CDRH3D16
footprint L0402_A
footprint CDRH2D18/HP
footprint L0805_A
footprint L1210_A
footprint XFL4020
pins: 1, 2

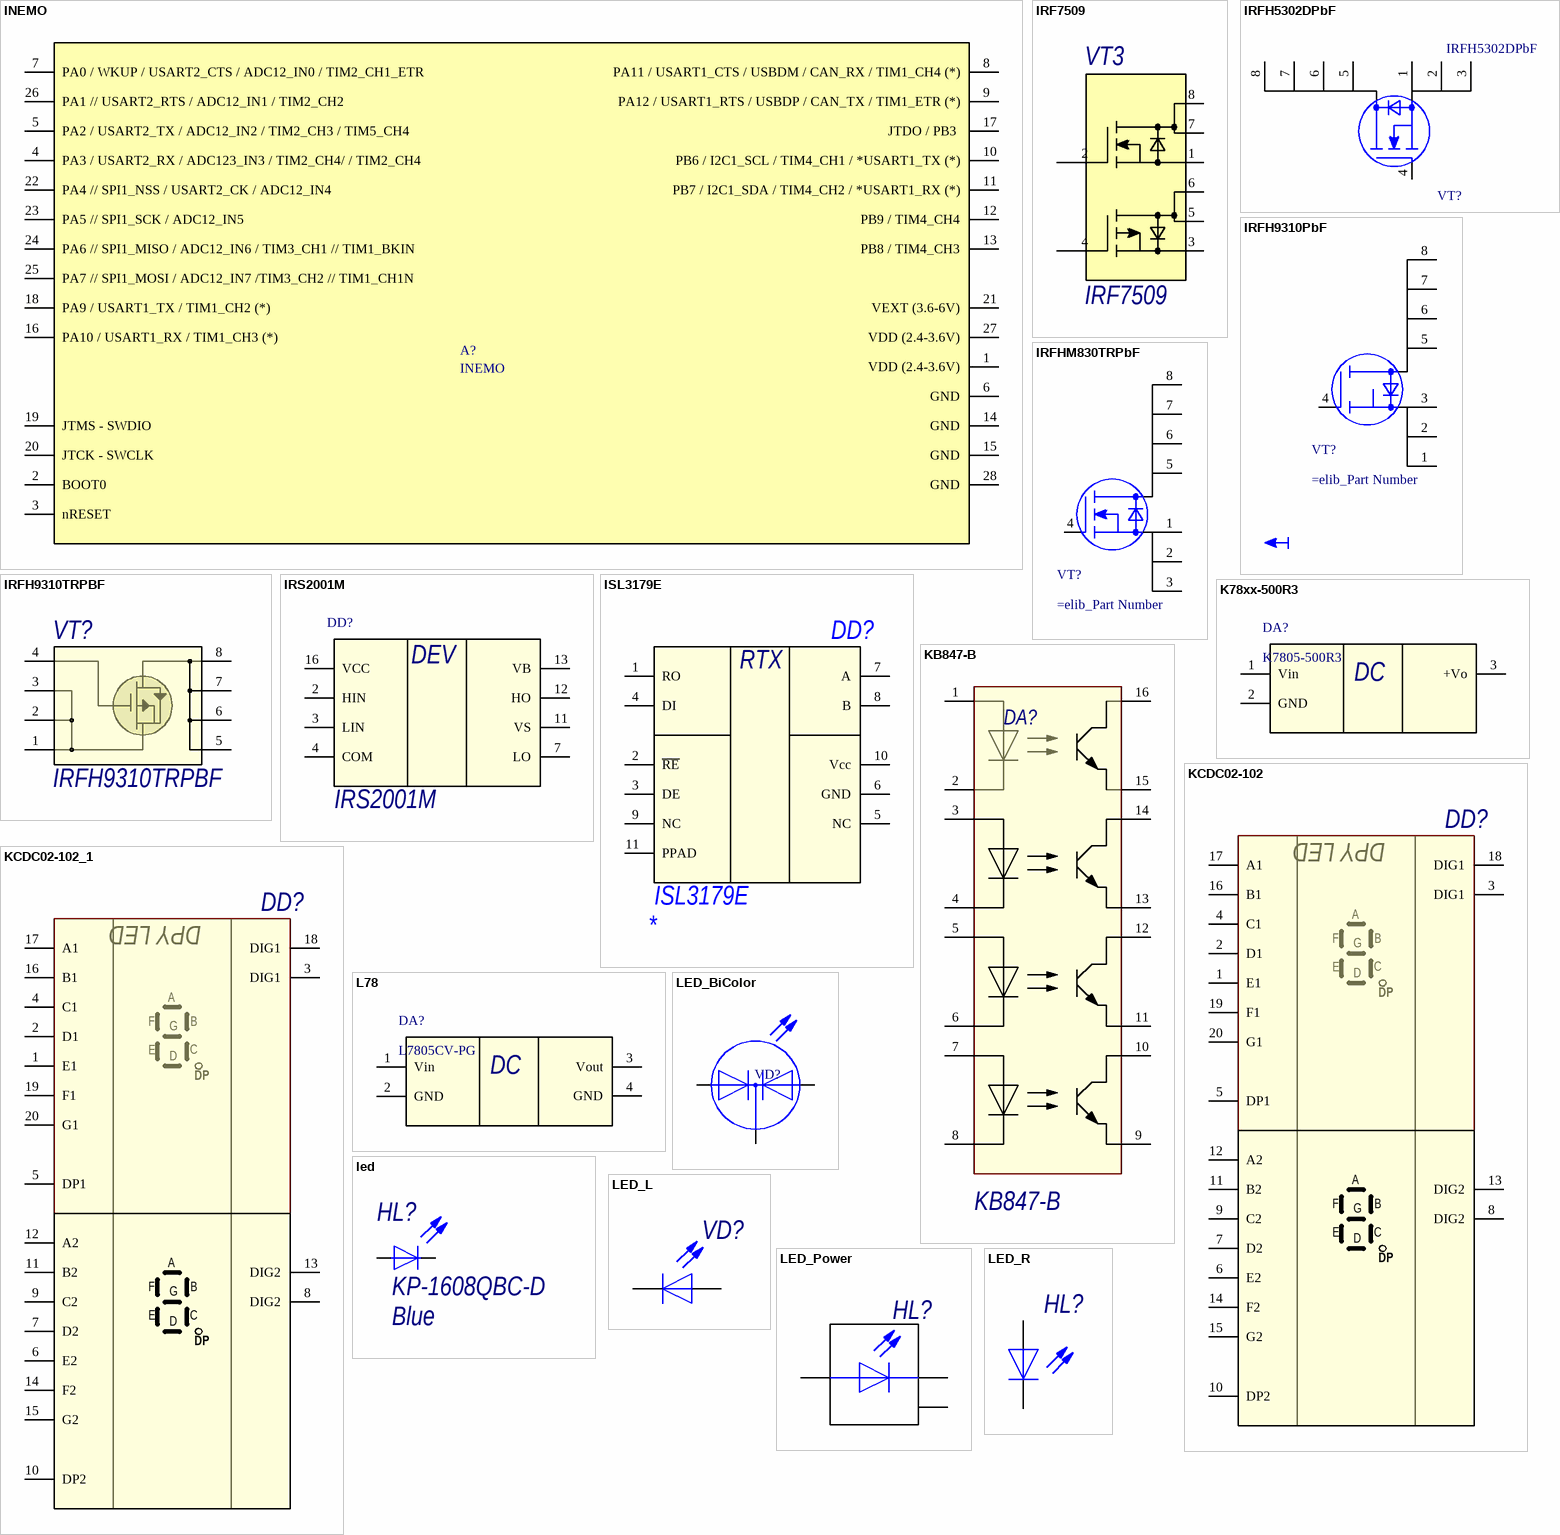
[diagram p9: symbols INEMO to LED_R]

## INEMO
designator A?
9-axis motion sensing  system-; Name: INEMO-M1
footprint INEMO-M1
pins: 1 VDD (2.4-3.6V), 2 BOOT0, 3 nRESET, 4 PA3 / USART2_RX / ADC123_IN3 / TIM2_CH4/ / TIM2_CH4, 5 PA2 / USART2_TX / ADC12_IN2 / TIM2_CH3 / TIM5_CH4, 6 GND, 7 PA0 / WKUP / USART2_CTS / ADC12_IN0 / TIM2_CH1_ETR, 8 PA11 / USART1_CTS / USBDM / CAN_RX / TIM1_CH4 (*), 9 PA12 / USART1_RTS / USBDP / CAN_TX / TIM1_ETR (*), 10 PB6 / I2C1_SCL / TIM4_CH1 / *USART1_TX (*), 11 PB7 / I2C1_SDA / TIM4_CH2 / *USART1_RX (*), 12 PB9 / TIM4_CH4, 13 PB8 / TIM4_CH3, 14 GND, 15 GND, 16 PA10 / USART1_RX / TIM1_CH3 (*), 17 JTDO / PB3 , 18 PA9 / USART1_TX / TIM1_CH2 (*), 19 JTMS - SWDIO, 20 JTCK - SWCLK, 21 VEXT (3.6-6V), 22 PA4 // SPI1_NSS / USART2_CK / ADC12_IN4, 23 PA5 // SPI1_SCK / ADC12_IN5, 24 PA6 // SPI1_MISO / ADC12_IN6 / TIM3_CH1 // TIM1_BKIN , 25 PA7 // SPI1_MOSI / ADC12_IN7 /TIM3_CH2 // TIM1_CH1N, 26 PA1 // USART2_RTS / ADC12_IN1 / TIM2_CH2, 27 VDD (2.4-3.6V), 28 GND

## IRF7509
designator VT3
Комплементарная сборка МОП; Name: IRF7509
footprint Micro8_A
pins: 1 S1, 2 G1, 3 S2, 4 G2, 5 D2, 6 D2, 7 D1, 8 D1

## IRFH5302DPbF
designator VT?
N-MOSFET Vds=30 В, Id=100 А, Vgsth=1,8 В; Name: IRFH5302DPbF
footprint PQFN_5x6_H
pins: 1 S, 2 S, 3 S, 4 G, 5 D, 6 D, 7 D, 8 D

## IRFH9310PbF
designator VT?
P-MOSFET Vds=-30 В, Id=-21 А, Vgsth=-1,9 В
footprint PQFN_5x6_H
pins: 1 S, 2 S, 3 S, 4 G, 5 D, 6 D, 7 D, 8 D

## IRFH9310TRPBF
designator VT?
P-канал 30В 40А; Name: IRFH9310TRPBF
footprint PQFN_5x6_H
footprint SO8_H
pins: 1 S, 2 S, 3 S, 4 G, 5, 6, 7, 8

## IRFHM830TRPbF
designator VT?
N-MOSFET Vds=30 В, Id=40 А, Vgsth=1,8 В; Name: IRFHM830TRPbF
footprint PQFN_3.3X3.3_H
pins: 1 S, 2 S, 3 S, 4 G, 5 D, 6 D, 7 D, 8 D

## IRS2001M
designator DD?
HI-LO side driver; Name: IRS2001M
footprint MLPQ4x4
pins: 2 HIN, 3 LIN, 4 COM, 7 LO, 11 VS, 12 HO, 13 VB, 16 VCC
text: DEV

## ISL3179E
designator DD?  Name: ISL3179E
Приемопередатчик RS485
footprint DFN-10LD (10 LEAD DUAL FLAT PACKAGE)
pins: 1 RO, 2 ~{RE}, 3 DE, 4 DI, 5 NC, 6 GND, 7 A, 8 B, 9 NC, 10 Vcc, 11 PPAD
text: RTX

## K78xx-500R3
designator DA?, comment K7805-500R3
DC/DC преобразователь неизолированный
pins: 1 Vin (power), 2 GND (power), 3 +Vo (power)
text: DC

## KB847-B
designator DA?
Value: Value; Name: KB847-B
pins: 1, 2, 3, 4, 5, 6, 7, 8, 9, 10, 11, 12, 13, 14, 15, 16

## KCDC02-102
designator DD?  (value not drawn)
7-ми сегментный 2-х разрядный цифровой индикатор; Manufacturer: Kingbright Electronic; Name: KCDC02-102
footprint KCDC02-102
pins: 1 E1, 2 D1, 3 DIG1, 4 C1, 5 DP1, 6 E2, 7 D2, 8 DIG2, 9 C2, 10 DP2, 11 B2, 12 A2, 13 DIG2, 14 F2, 15 G2, 16 B1, 17 A1, 18 DIG1, 19 F1, 20 G1
text: DPY LED; A; F; B; G; E; C; D; DP

## KCDC02-102_1
designator DD?  (value not drawn)
7-ми сегментный 2-х разрядный цифровой индикатор; Manufacturer: Kingbright Electronic; Name: KCDC02-102
footprint KCDC02-102
pins: 1 E1, 2 D1, 3 DIG1, 4 C1, 5 DP1, 6 E2, 7 D2, 8 DIG2, 9 C2, 10 DP2, 11 B2, 12 A2, 13 DIG2, 14 F2, 15 G2, 16 B1, 17 A1, 18 DIG1, 19 F1, 20 G1
text: DPY LED; A; F; B; G; E; C; D; DP

## L78
designator DA?, comment L7805CV-PG
Линейный стабилизатор напряжения
pins: 1 Vin (power), 2 GND (power), 3 Vout (power), 4 GND (power)
text: DC

## led
designator HL?, comment Color: Blue  (hidden comment: KP-1608QBC-D)
Светодиод; Name: KP-1608QBC-D
pins: 1 A, 2 K
3 alternate drawings of the same symbol

## LED_BiColor
designator VD?
Светодиод
footprint LED-3
pins: 1 K, 2 A, 3 A

## LED_L
designator VD?
Светодиод
footprint D0603_A
footprint D0603_H
pins: 1 Анод, 2 Катод

## LED_Power
designator HL?
Светодиод
footprint D0603_A
footprint D0603_H
footprint LED_1W (High POwer LED on star)
pins: 0 A, 1 K, 2 A

## LED_R
designator HL?
Светодиод
footprint D0603_A
footprint D0603_H
pins: 1 Анод, 2 Катод

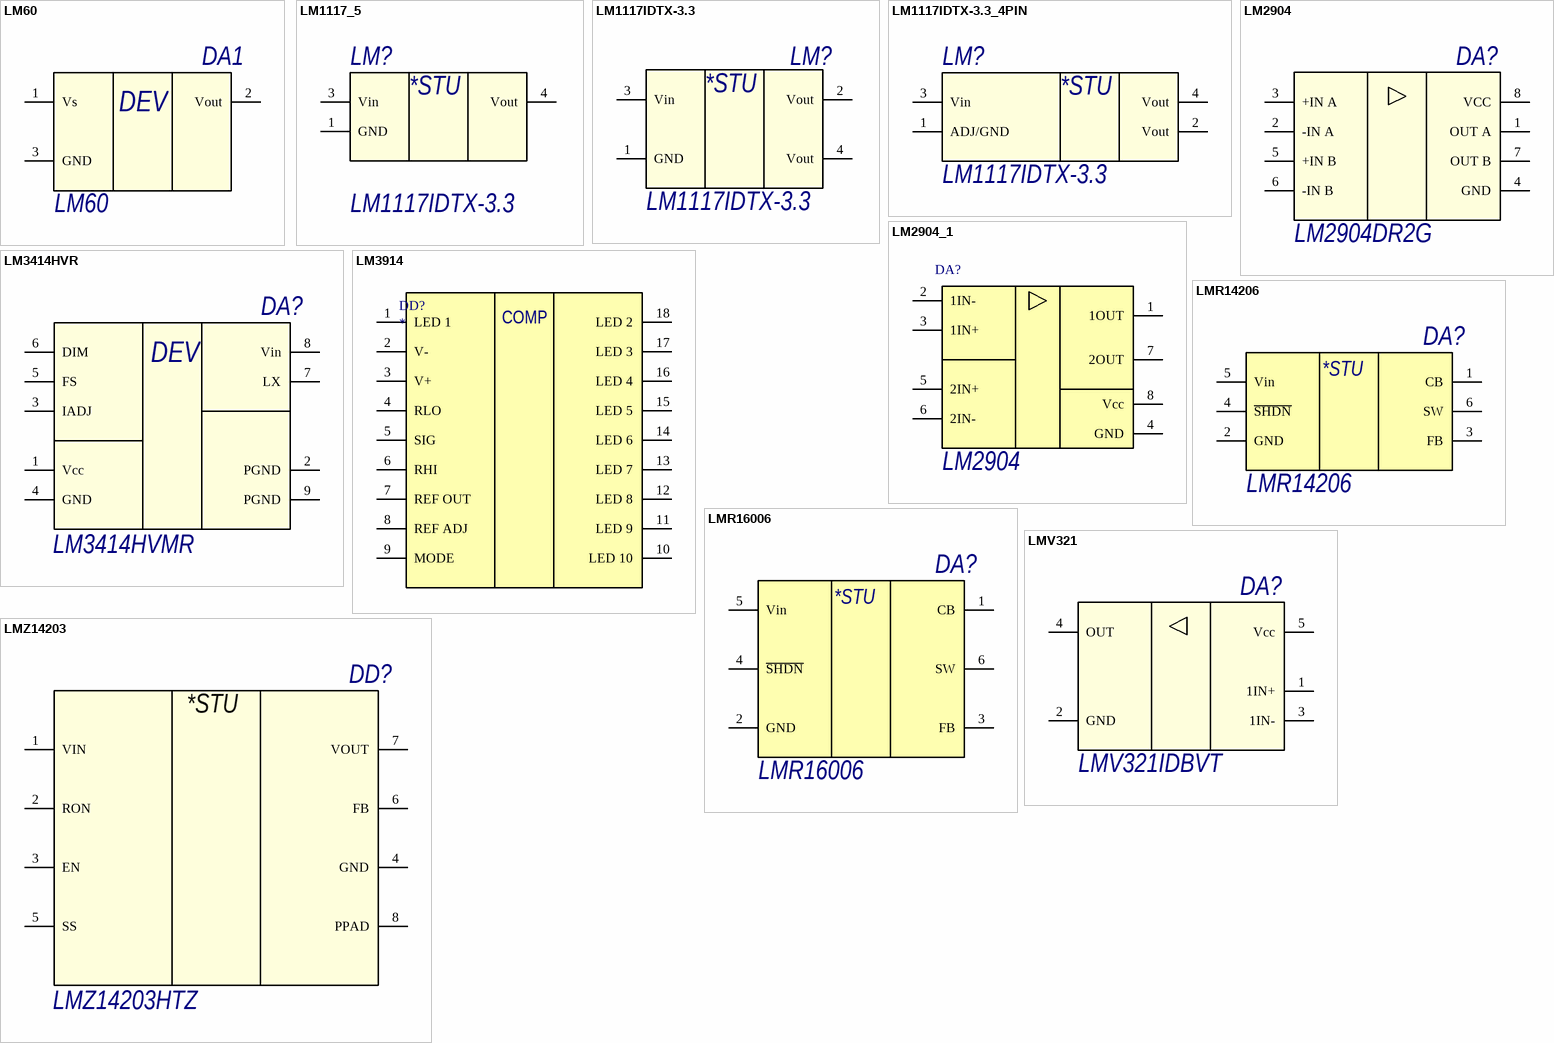
[diagram p10: symbols LM60 to LMZ14203]

## LM60
designator DA1
Temperature sensor; Part Description: Analog Temperature Sensor; Manufacturer: Texas Instruments; Voltage: 2.7-10V; Table: IC_Sensor; Part Number: LM60; Device: LM60; Case: SOT-23; Type: Temp Analog; Pin Count: 3; Status: test; HelpURL: http://www.ti.com/product/LM60; ComponentLink1URL: http://www.ti.com.cn/cn/lit/ds/symlink/lm60-q1.pdf; ComponentLink1Description: Datasheet; Name: LM60
footprint SOT23_3
footprint SOT23-3_A
pins: 1 Vs, 2 Vout, 3 GND
text: DEV

## LM1117_5
designator LM?, comment LM1117IDTX-3.3
Линейный регулятор напрежения; Name: LM1117IDTX-3.3
footprint DPAK_A
footprint DPAK_H
pins: 1 GND, 3 Vin, 4 Vout
text: *STU

## LM1117IDTX-3.3
designator LM?
Линейный регулятор напрежения; Name: LM1117IDTX-3.3
footprint DPAK_A
footprint DPAK_H
pins: 1 GND, 2 Vout, 3 Vin, 4 Vout
text: *STU

## LM1117IDTX-3.3_4PIN
designator LM?, comment LM1117IDTX-3.3
Линейный регулятор напрежения; Name: LM1117IDTX-3.3
footprint DPAK_A
footprint DPAK_H
pins: 1 ADJ/GND, 2 Vout, 3 Vin, 4 Vout
text: *STU

## LM2904
designator DA?, comment LM2904DR2G
Двухканальный операционный усилитель
pins: 1 OUT A, 2 -IN A, 3 +IN A, 4 GND, 5 +IN B, 6 -IN B, 7 OUT B, 8 VCC

## LM2904_1
designator DA?, comment LM2904
ОУ; Name: LM2904
footprint SO8_H
footprint SO8_A
pins: 1 1OUT, 2 1IN-, 3 1IN+, 4 GND, 5 2IN+, 6 2IN-, 7 2OUT, 8 Vcc

## LM3414HVR
designator DA?, comment LM3414HVMR
Драйвер светодиодов, понижающий 1А, 60В,; Part Description: 60W Common Anode Capable Constant Current Buck LED Driver Requires No Ext. Current Sensing Res; Manufacturer: Texas Instruments; Max Current: 1A; Frequency: 1MHz; VoltageOut: 60V; VoltageIn: 65V; Table: IC_Power; Part Number: LM3414HVMR; Type: Led Buck; Case: SO-8; Pin Count: 9; Status: test; HelpURL: http://www.ti.com/product/lm3414hv; ComponentLink1URL: http://www.ti.com/lit/ds/symlink/lm3414hv.pdf; ComponentLink1Description: Datasheet; Name: LM3414HVMR
footprint SO_8P
footprint SO8_A PowerPad
footprint SO8_A PowerPad
pins: 1 Vcc, 2 PGND, 3 IADJ, 4 GND, 5 FS, 6 DIM, 7 LX, 8 Vin, 9 PGND
text: DEV